# Altium schematic symbol library MSM8916_DRAM_PMIC_REF_Library.SchLib: 236 symbols (part 1 of 2)
Pins are listed as number, name and electrical type; pins without a type are passive.

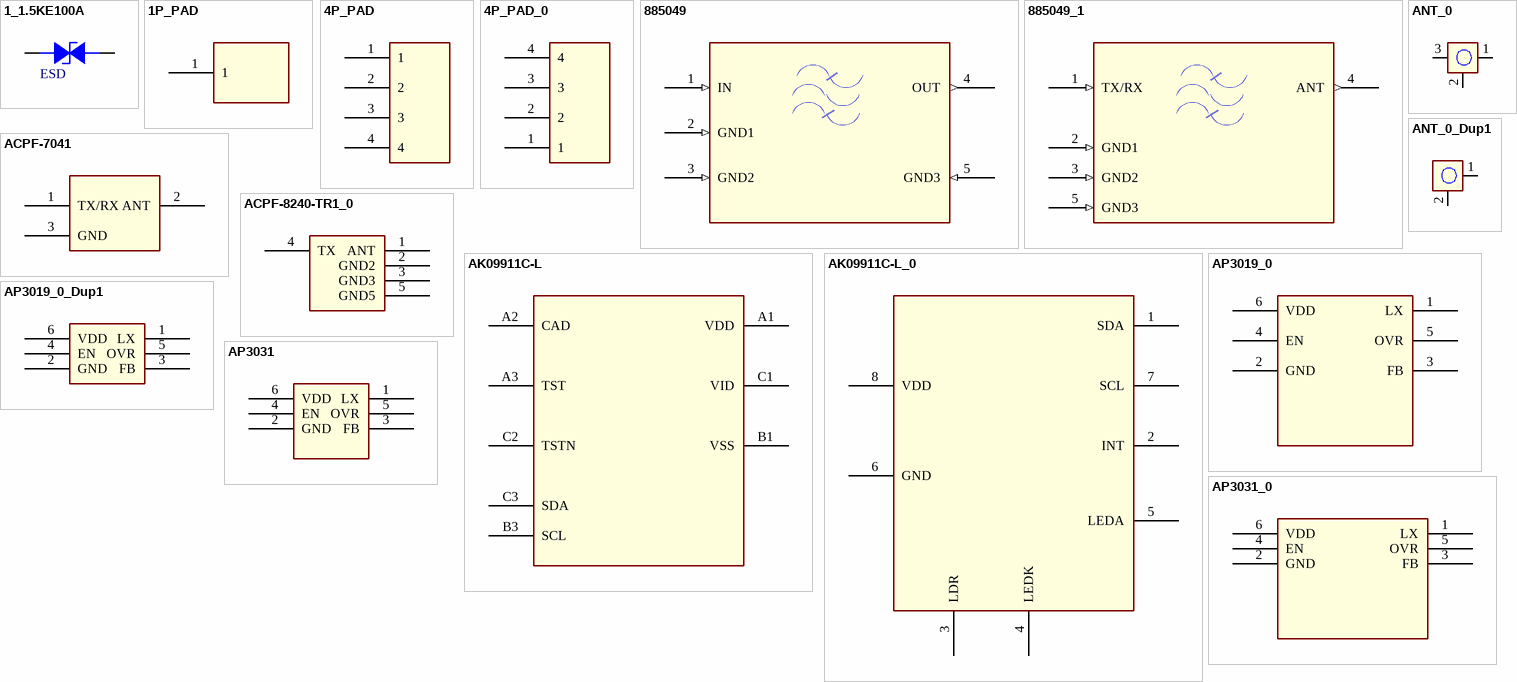
[diagram p0: symbols 1_1.5KE100A to AP3031_0]

## 1_1.5KE100A
designator D?, comment ESD
pins: 1 ANODE, 2 CATHODE

## 1P_PAD
designator U?
pins: 1

## 4P_PAD
designator U?
pins: 1, 2, 3, 4

## 4P_PAD_0
designator U?
pins: 1, 2, 3, 4

## 885049
designator U?
PART_NUMBER: MCN_NO; PART_ID: MFG_NO; $LOCATION: REF?; SYMNAME: filter_bp_3g; $PATH: ?; PACK_TYPE: ?
footprint 885049
pins: 1 IN (in), 2 GND1 (in), 3 GND2 (in), 4 OUT (out), 5 GND3 (in)

## 885049_1
designator U?
PART_NUMBER: MCN_NO; PART_ID: MFG_NO; $LOCATION: REF?; SYMNAME: filter_bp_3g; $PATH: ?; PACK_TYPE: ?
footprint 885049
pins: 1 TX/RX (in), 2 GND1 (in), 3 GND2 (in), 4 ANT (out), 5 GND3 (in)

## ACPF-7041
designator U?
pins: 1 TX/RX, 2 ANT, 3 GND

## ACPF-8240-TR1_0
designator U?
pins: 1 ANT, 2 GND2, 3 GND3, 4 TX, 5 GND5

## AK09911C-L
designator U?
pins: A1 VDD, A2 CAD, A3 TST, B1 VSS, B3 SCL, C1 VID, C2 TSTN, C3 SDA

## AK09911C-L_0
designator U?
pins: 1 SDA, 2 INT, 3 LDR, 4 LEDK, 5 LEDA, 6 GND, 7 SCL, 8 VDD

## ANT_0
designator J?
pins: 1, 2, 3

## ANT_0_Dup1
designator J?
pins: 1, 2

## AP3019_0
designator U?
pins: 1 LX, 2 GND, 3 FB, 4 EN, 5 OVR, 6 VDD

## AP3019_0_Dup1
designator U?
pins: 1 LX, 2 GND, 3 FB, 4 EN, 5 OVR, 6 VDD

## AP3031
designator U?
pins: 1 LX, 2 GND, 3 FB, 4 EN, 5 OVR, 6 VDD

## AP3031_0
designator U?
pins: 1 LX, 2 GND, 3 FB, 4 EN, 5 OVR, 6 VDD

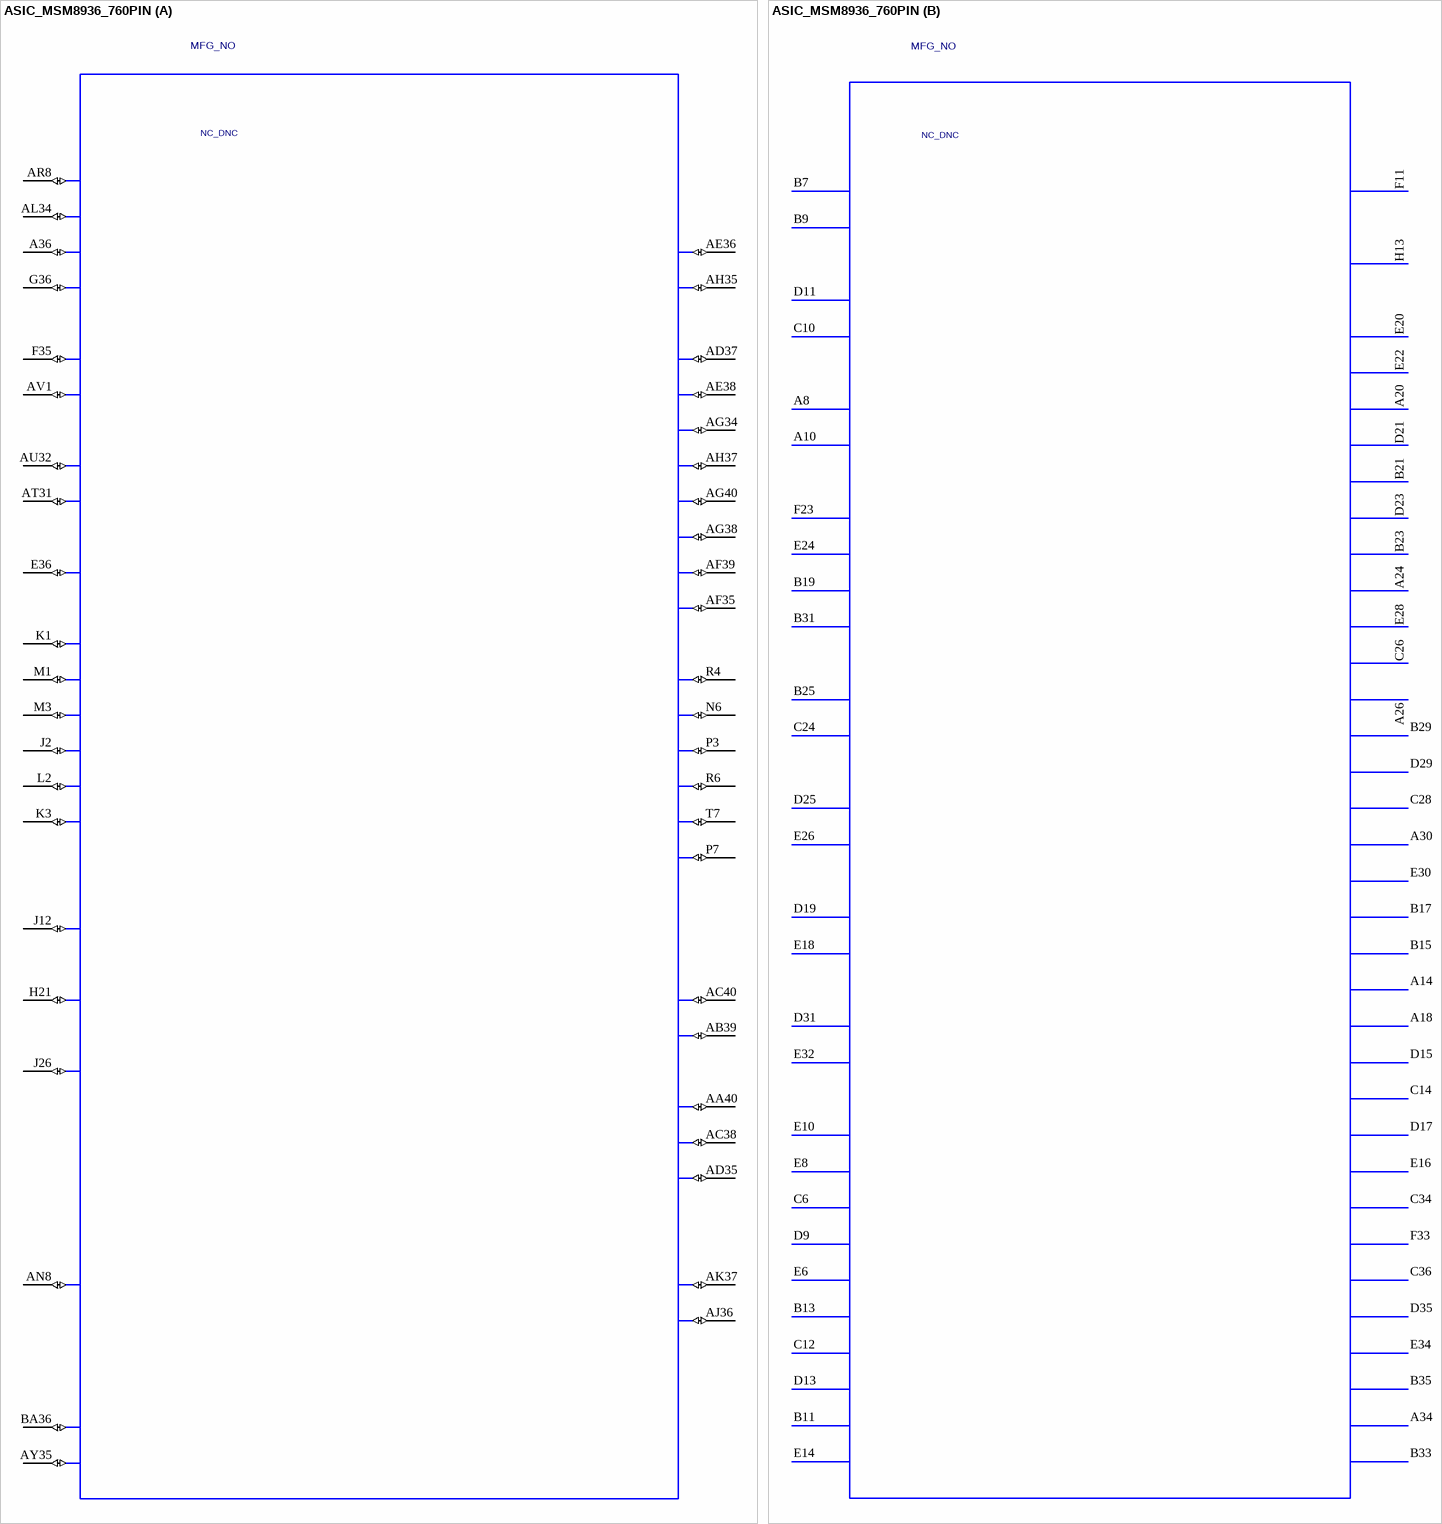
[diagram p1: symbol ASIC_MSM8936_760PIN]

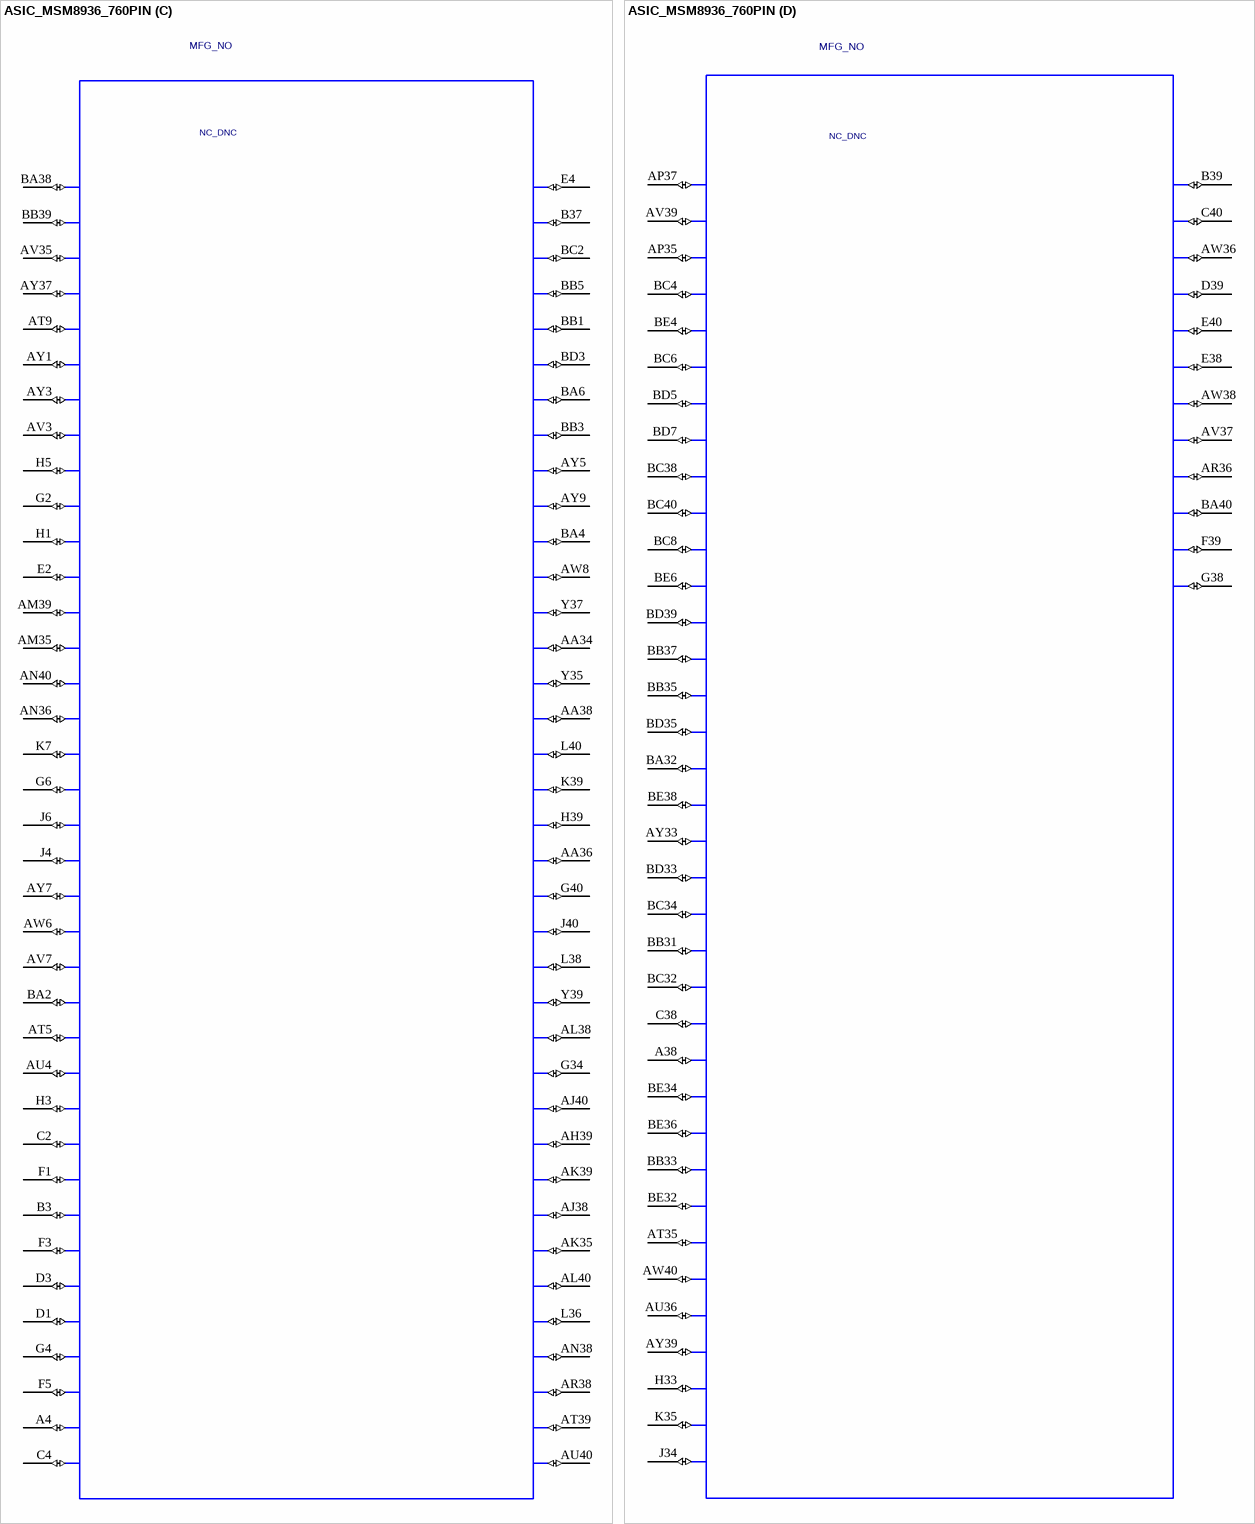
[diagram p2: symbol ASIC_MSM8936_760PIN]

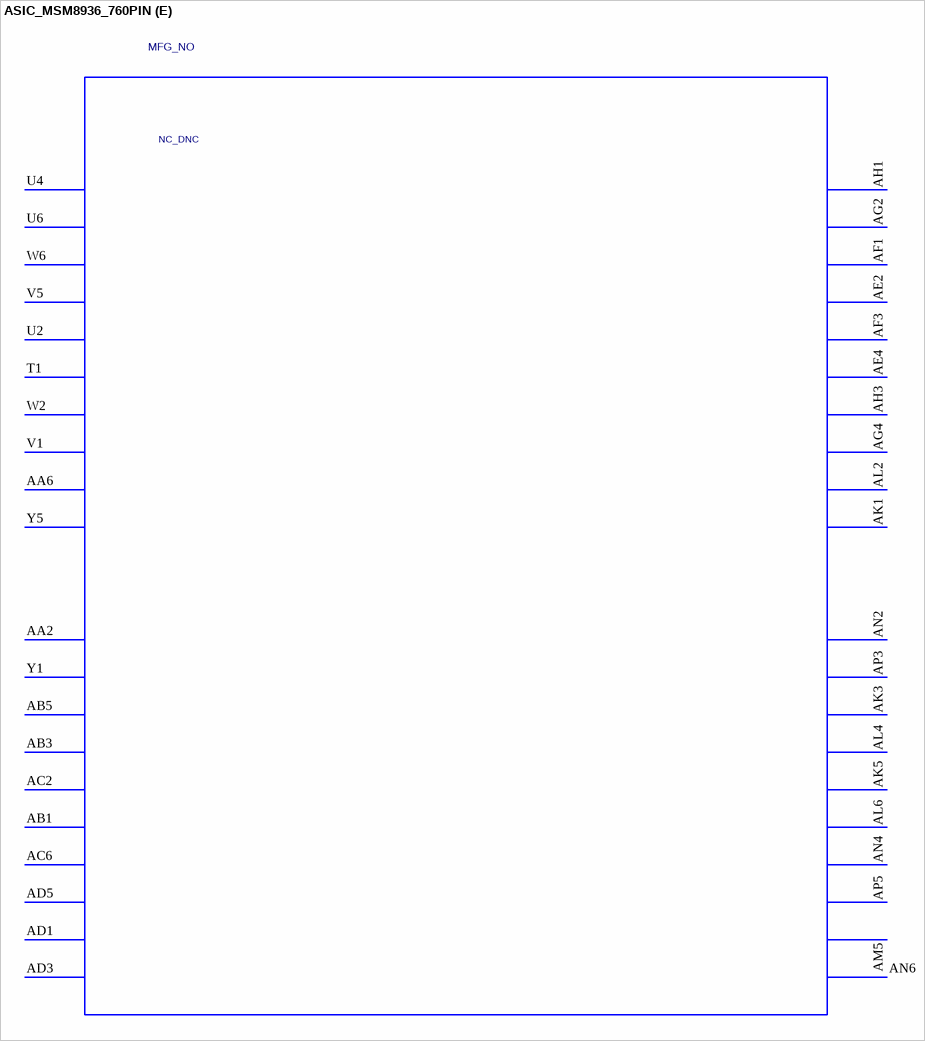
[diagram p3: symbol ASIC_MSM8936_760PIN]

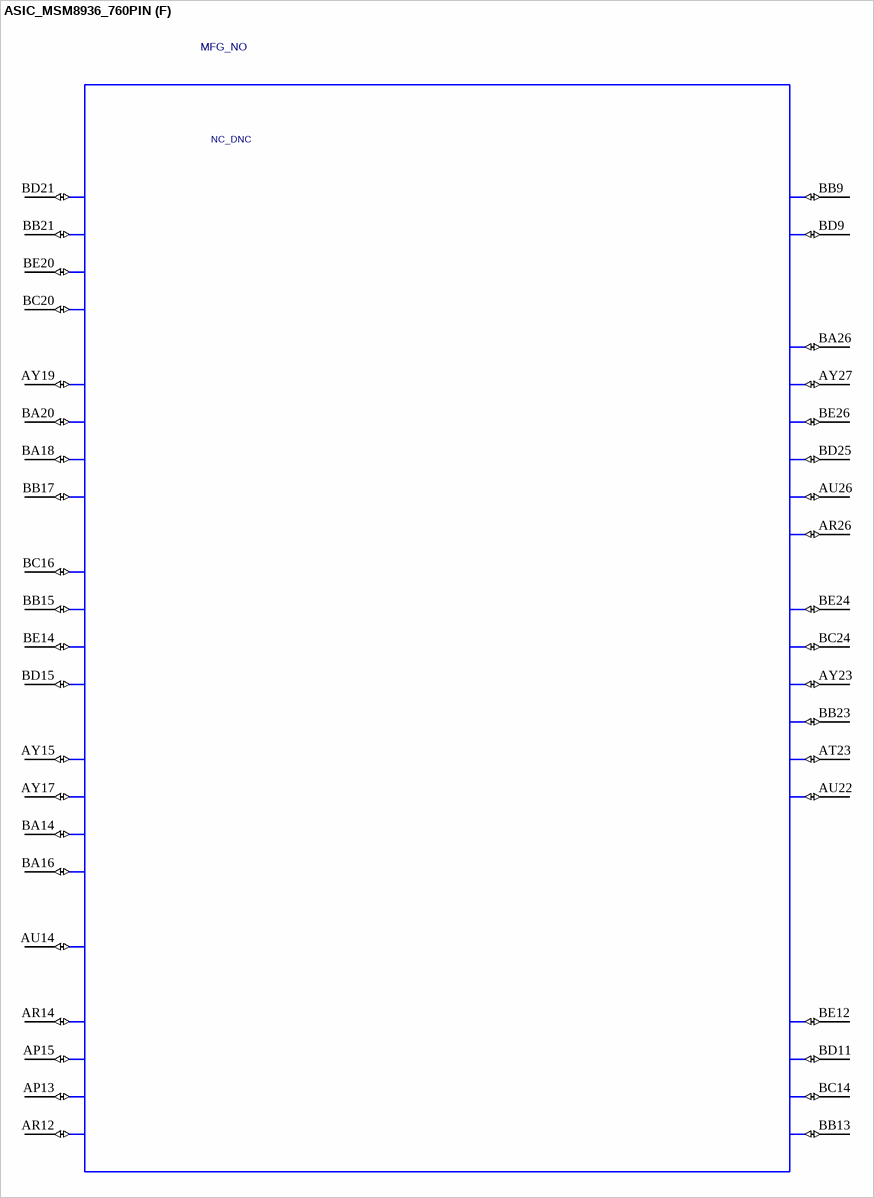
[diagram p4: symbol ASIC_MSM8936_760PIN]

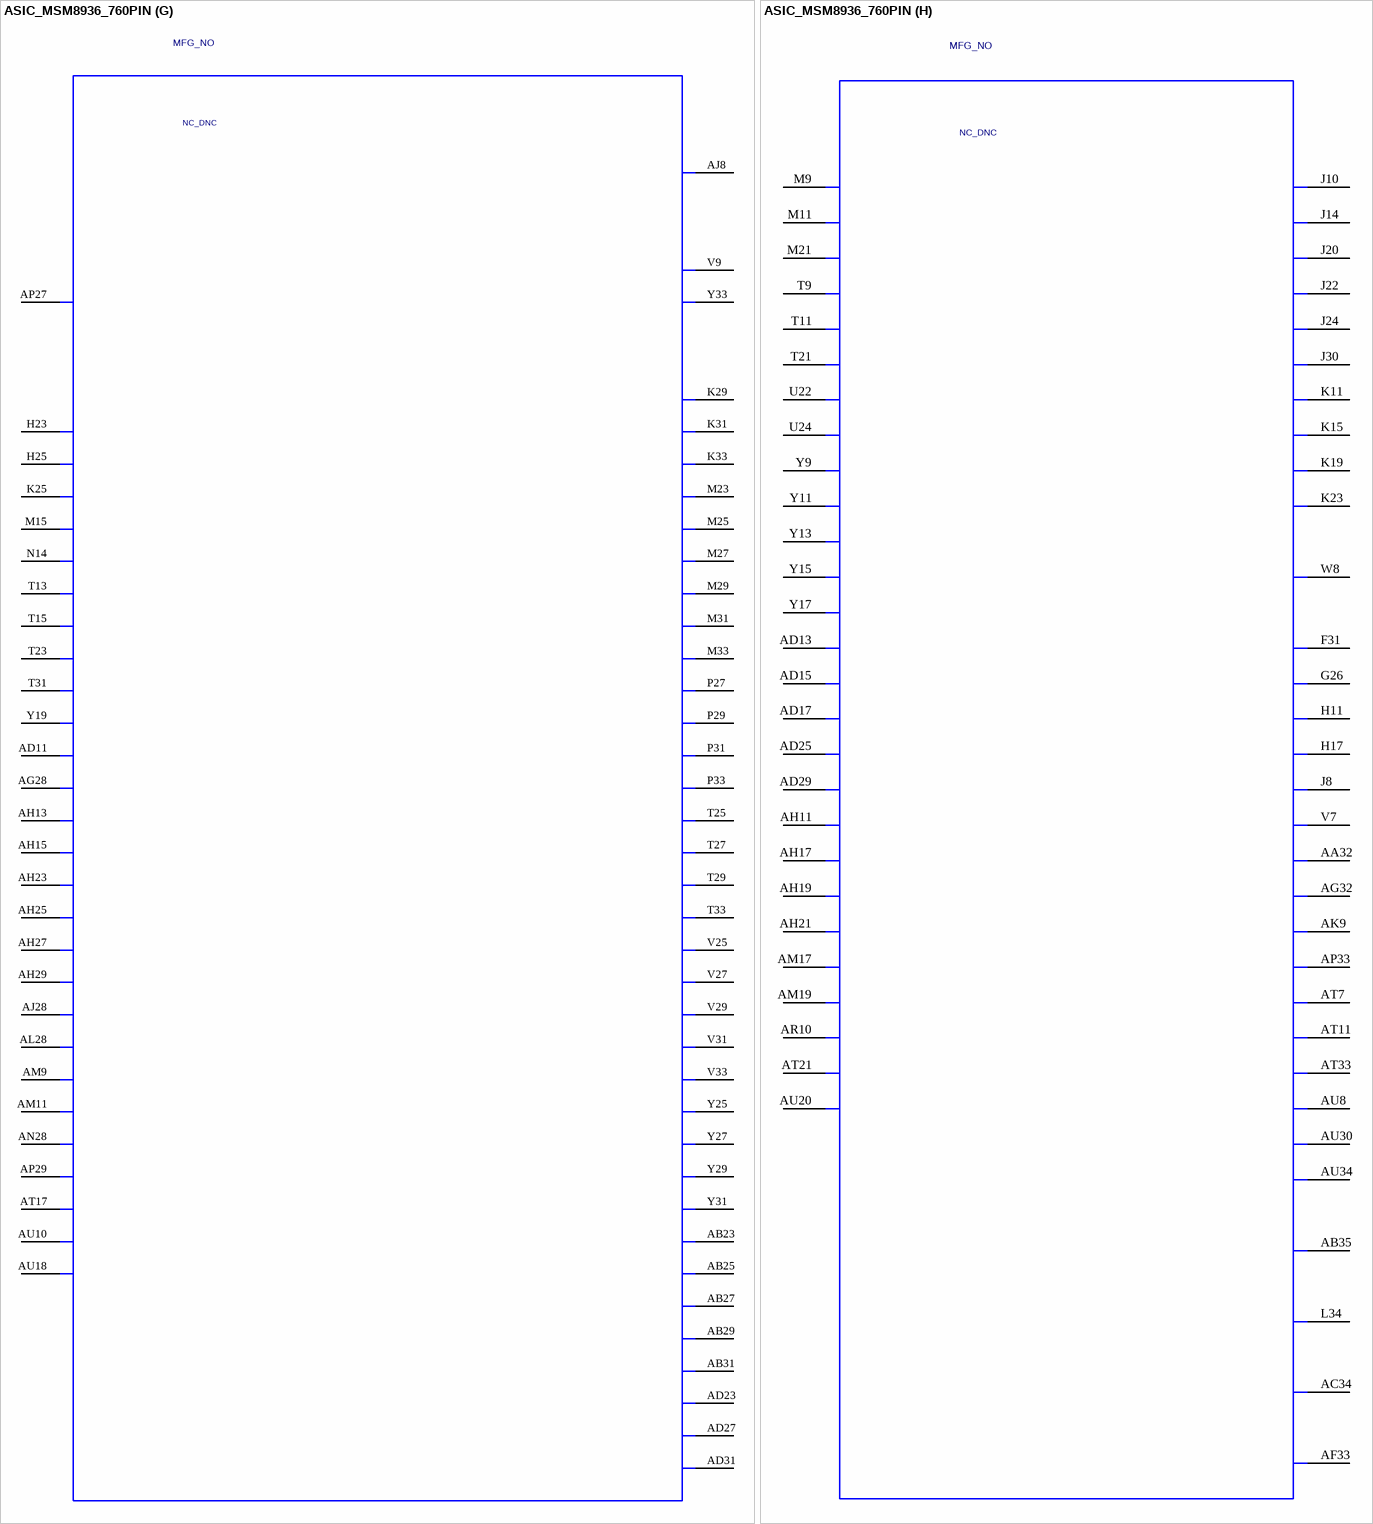
[diagram p5: symbol ASIC_MSM8936_760PIN]

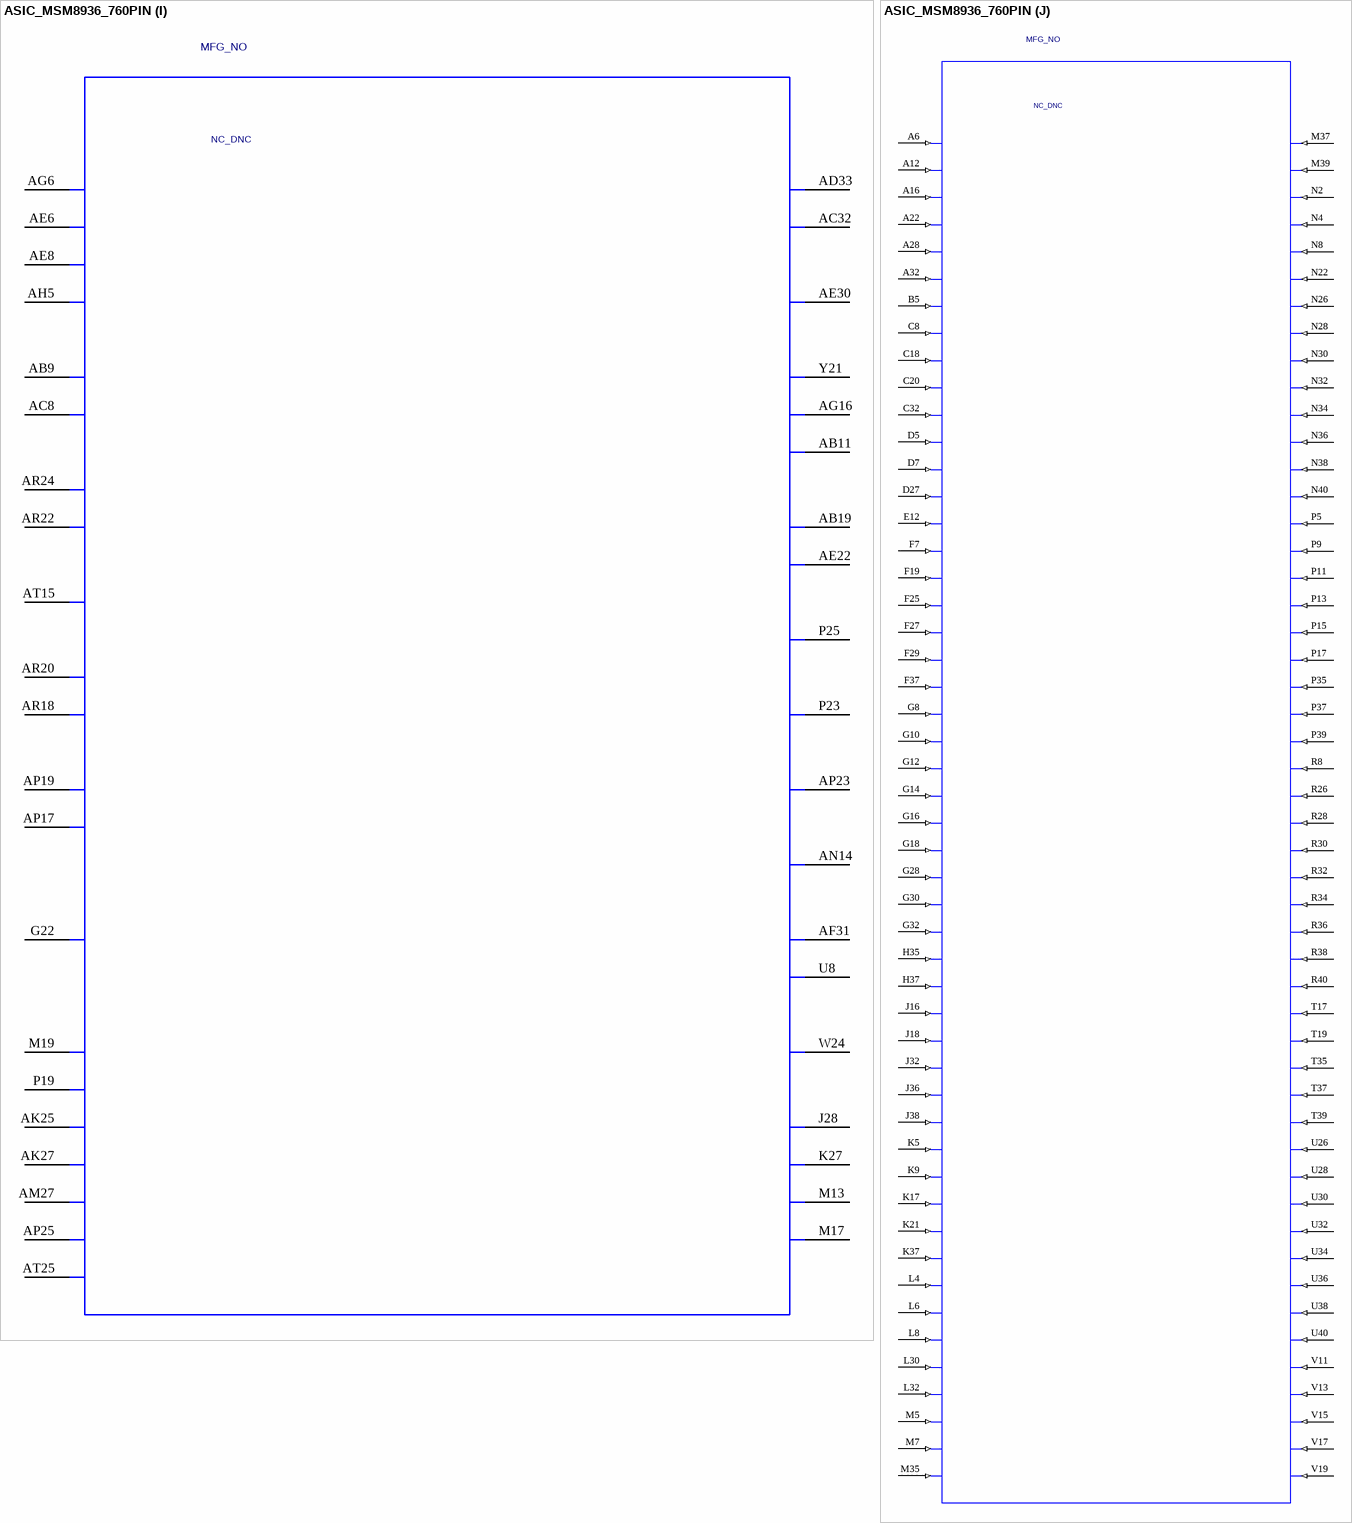
[diagram p6: symbol ASIC_MSM8936_760PIN]

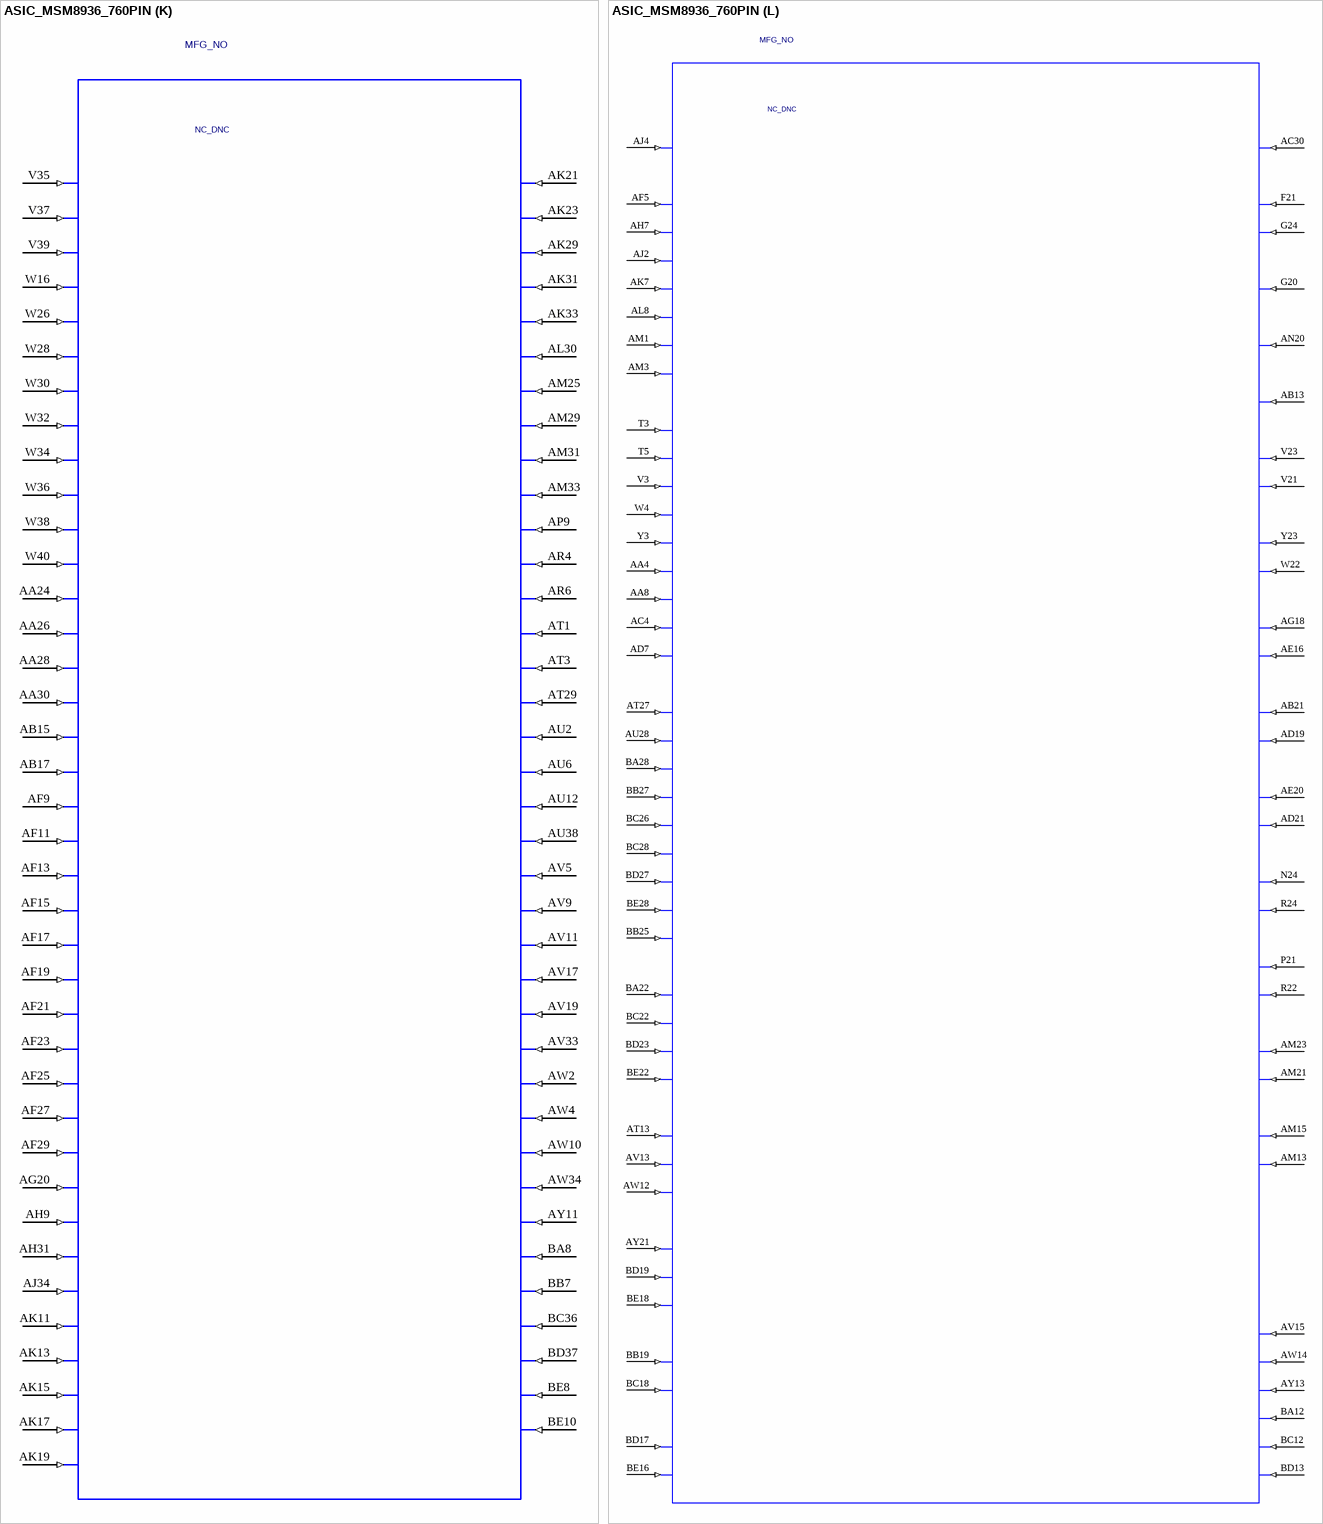
[diagram p7: symbol ASIC_MSM8936_760PIN]

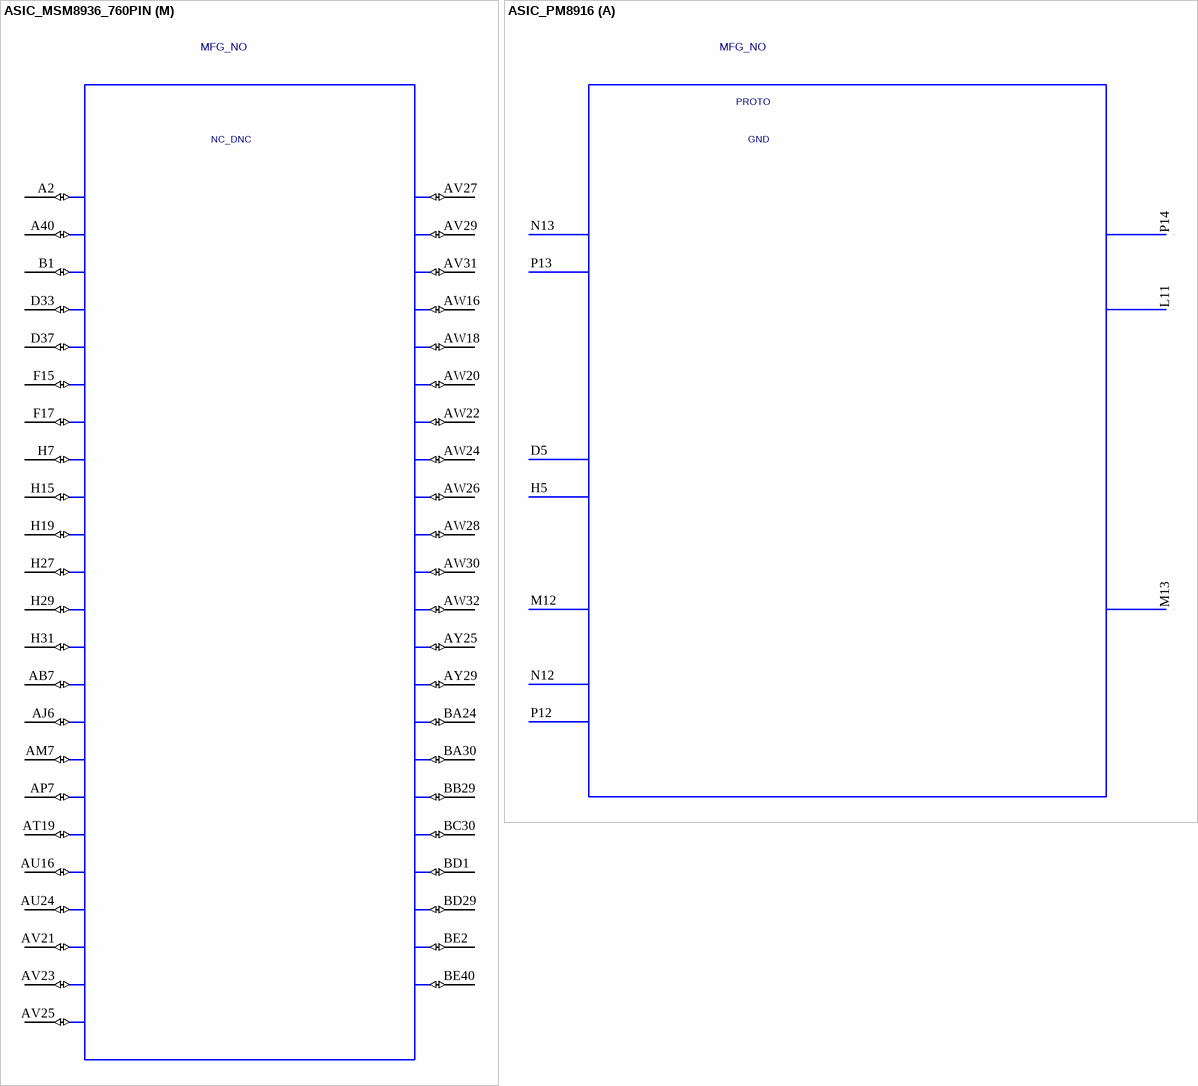
[diagram p8: symbols ASIC_MSM8936_760PIN to ASIC_PM8916]

## ASIC_MSM8936_760PIN
designator REF?  SYMNAME: NC_DNC  PART_ID: MFG_NO  (hidden comment: ASIC_MSM8936_760PIN)
PART_NUMBER: MCN_NO; OriginalSymbolOrigin: (-1100,2500); SPLIT_INST: TRUE; CDS_LMAN_SYM_OUTLINE: -1050,2500,1050,-2500; CDS_LMAN_SPLIT_NUMBER: 1 of 13; PACK_TYPE: ?
footprint MSM-8916-0-760NSP-TR-00-0
part A pins: A36 CXO_EN (io), AA40 USB2_HS_ID (io), AB39 USB2_HS_DP (io), AC38 USB2_HS_TXRTUNE (io), AC40 USB2_HS_DM (io), AD35 USB2_HS_SYSCLOCK (io), AD37 SDC1_DATA_0 (io), AE36 SDC1_CLK (io), AE38 SDC1_DATA_1 (io), AF35 SDC1_DATA_7 (io), AF39 SDC1_DATA_6 (io), AG34 SDC1_DATA_2 (io), AG38 SDC1_DATA_5 (io), AG40 SDC1_DATA_4 (io), AH35 SDC1_CMD (io), AH37 SDC1_DATA_3 (io), AJ36 PMIC_SPMI_DATA (io), AK37 PMIC_SPMI_CLK (io), AL34 CXO (io), AN8 PLL_TEST_SE (io), AR8 WCSS_XO (io), AT31 MODE_1 (io), AU32 MODE_0 (io), AV1 RESOUT* (io), AY35 ATEST1 (io), BA36 ATEST0 (io), E36 PS_HOLD (io), F35 RESIN* (io), G36 SLEEP_CLK (io), H21 VREF_EBI0_D0_D2 (io), J2 TDO (io), J12 VREF_EBI0_CA (io), J26 VREF_EBI0_D1_D3 (io), K1 SRST* (io), K3 TRST* (io), L2 TMS (io), M1 TCK (io), M3 TDI (io), N6 SDC2_CMD (io), P3 SDC2_DATA_0 (io), P7 SDC2_DATA_3 (io), R4 SDC2_CLK (io), R6 SDC2_DATA_1 (io), T7 SDC2_DATA_2 (io)
part B pins: A8 EBI0_CKE_0 (io), A10 EBI0_CKE_1 (io), A14 EBI0_DQ_18 (io), A18 EBI0_DQ_19 (io), A20 EBI0_DQ_2 (io), A24 EBI0_DQ_7 (io), A26 EBI0_DQ_10 (io), A30 EBI0_DQ_14 (io), A34 EBI0_DQ_30 (io), B7 EBI0_CS_N_0 (io), B9 EBI0_CS_N_1 (io), B11 EBI0_CA_8 (io), B13 EBI0_CA_5 (io), B15 EBI0_DQ_17 (io), B17 EBI0_DQ_16 (io), B19 EBI0_DM_2 (io), B21 EBI0_DQ_4 (io), B23 EBI0_DQ_6 (io), B25 EBI0_DQSB_0 (io), B29 EBI0_DQ_11 (io), B31 EBI0_DM_3 (io), B33 EBI0_DQ_31 (io), B35 EBI0_DQ_29 (io), C6 EBI0_CA_2 (io), C10 EBI0_CK (io), C12 EBI0_CA_6 (io), C14 EBI0_DQ_21 (io), C24 EBI0_DQS_0 (io), C26 EBI0_DQ_9 (io), C28 EBI0_DQ_13 (io), C34 EBI0_DQ_24 (io), C36 EBI0_DQ_26 (io), D9 EBI0_CA_3 (io), D11 EBI0_CKB (io), D13 EBI0_CA_7 (io), D15 EBI0_DQ_20 (io), D17 EBI0_DQ_22 (io), D19 EBI0_DQSB_2 (io), D21 EBI0_DQ_3 (io), D23 EBI0_DQ_5 (io), D25 EBI0_DQSB_1 (io), D29 EBI0_DQ_12 (io), D31 EBI0_DQSB_3 (io), D35 EBI0_DQ_27 (io), E6 EBI0_CA_4 (io), E8 EBI0_CA_1 (io), E10 EBI0_CA_0 (io), E14 EBI0_CA_9 (io), E16 EBI0_DQ_23 (io), E18 EBI0_DQS_2 (io), E20 EBI0_DQ_0 (io), E22 EBI0_DQ_1 (io), E24 EBI0_DM_1 (io), E26 EBI0_DQS_1 (io), E28 EBI0_DQ_8 (io), E30 EBI0_DQ_15 (io), E32 EBI0_DQS_3 (io), E34 EBI0_DQ_28 (io), F11 EBI0_CAL (io), F23 EBI0_DM_0 (io), F33 EBI0_DQ_25 (io), H13 EBI0_ODT (io)
part C pins: A4 GPIO_35 (io), AA34 GPIO_50 (io), AA36 GPIO_56 (io), AA38 GPIO_52 (io), AH39 GPIO_64 (io), AJ38 GPIO_66 (io), AJ40 GPIO_63 (io), AK35 GPIO_67 (io), AK39 GPIO_65 (io), AL38 GPIO_61 (io), AL40 GPIO_68 (io), AM35 GPIO_13 (io), AM39 GPIO_12 (io), AN36 GPIO_15 (io), AN38 GPIO_70 (io), AN40 GPIO_14 (io), AR38 GPIO_71 (io), AT5 GPIO_24 (io), AT9 GPIO_4 (io), AT39 GPIO_72 (io), AU4 GPIO_25 (io), AU40 GPIO_73 (io), AV3 GPIO_7 (io), AV7 GPIO_22 (io), AV35 GPIO_2 (io), AW6 GPIO_21 (io), AW8 GPIO_48 (io), AY1 GPIO_5 (io), AY3 GPIO_6 (io), AY5 GPIO_45 (io), AY7 GPIO_20 (io), AY9 GPIO_46 (io), AY37 GPIO_3 (io), B3 GPIO_29 (io), B37 GPIO_38 (io), BA2 GPIO_23 (io), BA4 GPIO_47 (io), BA6 GPIO_43 (io), BA38 GPIO_0 (io), BB1 GPIO_41 (io), BB3 GPIO_44 (io), BB5 GPIO_40 (io), BB39 GPIO_1 (io), BC2 GPIO_39 (io), BD3 GPIO_42 (io), C2 GPIO_27 (io), C4 GPIO_36 (io), D1 GPIO_32 (io), D3 GPIO_31 (io), E2 GPIO_11 (io), E4 GPIO_37 (io), F1 GPIO_28 (io), F3 GPIO_30 (io), F5 GPIO_34 (io), G2 GPIO_9 (io), G4 GPIO_33 (io), G6 GPIO_17 (io), G34 GPIO_62 (io), G40 GPIO_57 (io), H1 GPIO_10 (io), H3 GPIO_26 (io), H5 GPIO_8 (io), H39 GPIO_55 (io), J4 GPIO_19 (io), J6 GPIO_18 (io), J40 GPIO_58 (io), K7 GPIO_16 (io), K39 GPIO_54 (io), L36 GPIO_69 (io), L38 GPIO_59 (io), L40 GPIO_53 (io), Y35 GPIO_51 (io), Y37 GPIO_49 (io), Y39 GPIO_60 (io)
part D pins: A38 GPIO_98 (io), AP35 GPIO_76 (io), AP37 GPIO_74 (io), AR36 GPIO_118 (io), AT35 GPIO_103 (io), AU36 GPIO_105 (io), AV37 GPIO_117 (io), AV39 GPIO_75 (io), AW36 GPIO_112 (io), AW38 GPIO_116 (io), AW40 GPIO_104 (io), AY33 GPIO_92 (io), AY39 GPIO_106 (io), B39 GPIO_110 (io), BA32 GPIO_90 (io), BA40 GPIO_119 (io), BB31 GPIO_95 (io), BB33 GPIO_101 (io), BB35 GPIO_88 (io), BB37 GPIO_87 (io), BC4 GPIO_77 (io), BC6 GPIO_79 (io), BC8 GPIO_84 (io), BC32 GPIO_96 (io), BC34 GPIO_94 (io), BC38 GPIO_82 (io), BC40 GPIO_83 (io), BD5 GPIO_80 (io), BD7 GPIO_81 (io), BD33 GPIO_93 (io), BD35 GPIO_89 (io), BD39 GPIO_86 (io), BE4 GPIO_78 (io), BE6 GPIO_85 (io), BE32 GPIO_102 (io), BE34 GPIO_99 (io), BE36 GPIO_100 (io), BE38 GPIO_91 (io), C38 GPIO_97 (io), C40 GPIO_111 (io), D39 GPIO_113 (io), E38 GPIO_115 (io), E40 GPIO_114 (io), F39 GPIO_120 (io), G38 GPIO_121 (io), H33 GPIO_107 (io), J34 GPIO_109 (io), K35 GPIO_108 (io)
part E pins: AA2 MIPI_CSI1_LANE0N (io), AA6 MIPI_CSI0_LANE4N (io), AB1 MIPI_CSI1_LANE2P (io), AB3 MIPI_CSI1_LANE1P (io), AB5 MIPI_CSI1_LANE1N (io), AC2 MIPI_CSI1_LANE2N (io), AC6 MIPI_CSI1_LANE3N (io), AD1 MIPI_CSI1_LANE4N (io), AD3 MIPI_CSI1_LANE4P (io), AD5 MIPI_CSI1_LANE3P (io), AE2 MIPI_DSI0_LANE0P (io), AE4 MIPI_DSI0_LANE1P (io), AF1 MIPI_DSI0_LANE0N (io), AF3 MIPI_DSI0_LANE1N (io), AG2 MIPI_DSI0_CLKP (io), AG4 MIPI_DSI0_LANE2P (io), AH1 MIPI_DSI0_CLKN (io), AH3 MIPI_DSI0_LANE2N (io), AK1 MIPI_DSI0_LANE3P (io), AK3 MIPI_DSI1_LANE0N (io), AK5 MIPI_DSI1_LANE1N (io), AL2 MIPI_DSI0_LANE3N (io), AL4 MIPI_DSI1_LANE0P (io), AL6 MIPI_DSI1_LANE1P (io), AM5 MIPI_DSI1_LANE3N (io), AN2 MIPI_DSI1_CLKN (io), AN4 MIPI_DSI1_LANE2N (io), AN6 MIPI_DSI1_LANE3P (io), AP3 MIPI_DSI1_CLKP (io), AP5 MIPI_DSI1_LANE2P (io), T1 MIPI_CSI0_LANE2P (io), U2 MIPI_CSI0_LANE2N (io), U4 MIPI_CSI0_LANE0N (io), U6 MIPI_CSI0_LANE0P (io), V1 MIPI_CSI0_LANE3P (io), V5 MIPI_CSI0_LANE1P (io), W2 MIPI_CSI0_LANE3N (io), W6 MIPI_CSI0_LANE1N (io), Y1 MIPI_CSI1_LANE0P (io), Y5 MIPI_CSI0_LANE4P (io)
part F pins: AP13 WLAN_QN (io), AP15 WLAN_IP (io), AR12 WLAN_QP (io), AR14 WLAN_IN (io), AR26 TXDAC0_VREF (io), AT23 TXDAC1_IREF (io), AU14 WLAN_RSET (io), AU22 TXDAC1_VREF (io), AU26 TXDAC0_IREF (io), AY15 BBRX1 (io), AY17 BBRX2 (io), AY19 BBRX_I_IN_CH1 (io), AY23 TXDAC1_QM (io), AY27 TXDAC0_IP (io), BA14 BBRX3 (io), BA16 BBRX4 (io), BA18 BBRX_I_QN_CH1 (io), BA20 BBRX_I_IP_CH1 (io), BA26 TXDAC0_IM (io), BB9 GRFC1 (io), BB13 GPS_BBQ2 (io), BB15 BBRX_I_IP_CH2 (io), BB17 BBRX_I_QP_CH1 (io), BB21 BBRX_I_IP_CH0 (io), BB23 TXDAC1_QP (io), BC14 GPS_BBQ (io), BC16 BBRX_I_IN_CH2 (io), BC20 BBRX_I_QP_CH0 (io), BC24 TXDAC1_IP (io), BD9 GRFC2 (io), BD11 GPS_BBI2 (io), BD15 BBRX_I_QP_CH2 (io), BD21 BBRX_I_IN_CH0 (io), BD25 TXDAC0_QP (io), BE12 GPS_BBI (io), BE14 BBRX_I_QN_CH2 (io), BE20 BBRX_I_QN_CH0 (io), BE24 TXDAC1_IM (io), BE26 TXDAC0_QM (io)
part G pins: AB23 VDD_APC_27 (power), AB25 VDD_APC_28 (power), AB27 VDD_APC_29 (power), AB29 VDD_APC_30 (power), AB31 VDD_APC_31 (power), AD11 VDDMX_1_11 (power), AD23 VDD_APC_32 (power), AD27 VDD_APC_33 (power), AD31 VDD_APC_34 (power), AG28 VDDMX_1_12 (power), AH13 VDDMX_1_13 (power), AH15 VDDMX_1_14 (power), AH23 VDDMX_1_15 (power), AH25 VDDMX_1_16 (power), AH27 VDDMX_1_17 (power), AH29 VDDMX_1_18 (power), AJ8 QFPROM_BLOW_VDD (power), AJ28 VDDMX_1_19 (power), AL28 VDDMX_1_20 (power), AM9 VDDMX_1_21 (power), AM11 VDDMX_1_22 (power), AN28 VDDMX_1_23 (power), AP27 VDDMX_TXDAC (power), AP29 VDDMX_1_24 (power), AT17 VDDMX_1_25 (power), AU10 VDDMX_1_26 (power), AU18 VDDMX_1_27 (power), H23 VDDMX_1_1 (power), H25 VDDMX_1_2 (power), K25 VDDMX_1_3 (power), K29 VDD_APC_1 (power), K31 VDD_APC_2 (power), K33 VDD_APC_3 (power), M15 VDDMX_1_4 (power), M23 VDD_APC_4 (power), M25 VDD_APC_5 (power), M27 VDD_APC_6 (power), M29 VDD_APC_7 (power), M31 VDD_APC_8 (power), M33 VDD_APC_9 (power), N14 VDDMX_1_5 (power), P27 VDD_APC_10 (power), P29 VDD_APC_11 (power), P31 VDD_APC_12 (power), P33 VDD_APC_13 (power), T13 VDDMX_1_6 (power), T15 VDDMX_1_7 (power), T23 VDDMX_1_8 (power), T25 VDD_APC_14 (power), T27 VDD_APC_15 (power), T29 VDD_APC_16 (power), T31 VDDMX_1_9 (power), T33 VDD_APC_17 (power), V9 VDDPX_VBIAS_SDC (power), V25 VDD_APC_18 (power), V27 VDD_APC_19 (power), V29 VDD_APC_20 (power), V31 VDD_APC_21 (power), V33 VDD_APC_22 (power), Y19 VDDMX_1_10 (power), Y25 VDD_APC_23 (power), Y27 VDD_APC_24 (power), Y29 VDD_APC_25 (power), Y31 VDD_APC_26 (power), Y33 VDDPX_VBIAS_UIM (power)
part H pins: AA32 VDDPX_3_7 (power), AB35 VDDPX_4 (power), AC34 VDDPX_6 (power), AD13 VDDCX_1_14 (power), AD15 VDDCX_1_15 (power), AD17 VDDCX_1_16 (power), AD25 VDDCX_1_17 (power), AD29 VDDCX_1_18 (power), AF33 VDDPX_7 (power), AG32 VDDPX_3_8 (power), AH11 VDDCX_1_19 (power), AH17 VDDCX_1_20 (power), AH19 VDDCX_1_21 (power), AH21 VDDCX_1_22 (power), AK9 VDDPX_3_9 (power), AM17 VDDCX_1_23 (power), AM19 VDDCX_1_24 (power), AP33 VDDPX_3_10 (power), AR10 VDDCX_1_25 (power), AT7 VDDPX_3_11 (power), AT11 VDDPX_3_12 (power), AT21 VDDCX_1_26 (power), AT33 VDDPX_3_13 (power), AU8 VDDPX_3_14 (power), AU20 VDDCX_1_27 (power), AU30 VDDPX_3_15 (power), AU34 VDDPX_3_16 (power), F31 VDDPX_3_1 (power), G26 VDDPX_3_2 (power), H11 VDDPX_3_3 (power), H17 VDDPX_3_4 (power), J8 VDDPX_3_5 (power), J10 VDDPX_1_1 (power), J14 VDDPX_1_2 (power), J20 VDDPX_1_3 (power), J22 VDDPX_1_4 (power), J24 VDDPX_1_5 (power), J30 VDDPX_1_6 (power), K11 VDDPX_1_7 (power), K15 VDDPX_1_8 (power), K19 VDDPX_1_9 (power), K23 VDDPX_1_10 (power), L34 VDDPX_5 (power), M9 VDDCX_1_1 (power), M11 VDDCX_1_2 (power), M21 VDDCX_1_3 (power), T9 VDDCX_1_4 (power), T11 VDDCX_1_5 (power), T21 VDDCX_1_6 (power), U22 VDDCX_1_7 (power), U24 VDDCX_1_8 (power), V7 VDDPX_3_6 (power), W8 VDDPX_2 (power), Y9 VDDCX_1_9 (power), Y11 VDDCX_1_10 (power), Y13 VDDCX_1_11 (power), Y15 VDDCX_1_12 (power), Y17 VDDCX_1_13 (power)
part I pins: AB9 VDDA_MIPI_CSI_1 (power), AB11 VDD_SR_GPLL4 (power), AB19 VDD_SR_MPLL0_GPLL6 (power), AC8 VDDA_MIPI_CSI_2 (power), AC32 USB2_HS_VDDA_3P3 (power), AD33 USB2_HS_VDDA_1P8 (power), AE6 VDDA_1P2_MIPI_DSI_1 (power), AE8 VDDA_1P2_MIPI_DSI_2 (power), AE22 VDD_SR_MPLL2_GPLL1 (power), AE30 USB2_HS_DVDD (power), AF31 VDD_CDC_SDC1 (power), AG6 VDDA_0P4_MIPI_DSI (power), AG16 VDD_SR_GPLL3 (power), AH5 VDDA_MIPI_DSI_PLL (power), AK25 VDD_MSS_3 (power), AK27 VDD_MSS_4 (power), AM27 VDD_MSS_5 (power), AN14 VDD_SR2_PRONTO_PLL (power), AP17 VDDAL_BBRX_CH2_GPSADC (power), AP19 VDDAL_BBRX_CH0_1 (power), AP23 VDD_SR2_MODEM_PLL1 (power), AP25 VDD_MSS_6 (power), AR18 VDDAH_BBRX_CH2 (power), AR20 VDDAH_BBRX_CH0_1 (power), AR22 VDDA_TXDAC1 (power), AR24 VDDA_TXDAC0 (power), AT15 VDDA_WLAN (power), AT25 VDD_MSS_7 (power), G22 VDDA_PLL_1P8 (power), J28 VDDA_CDC_EBI0_CA_D0_D1_D2_D3_1 (power), K27 VDDA_CDC_EBI0_CA_D0_D1_D2_D3_2 (power), M13 VDDA_CDC_EBI0_CA_D0_D1_D2_D3_3 (power), M17 VDDA_CDC_EBI0_CA_D0_D1_D2_D3_4 (power), M19 VDD_MSS_1 (power), P19 VDD_MSS_2 (power), P23 VDD_SR2_BIMC_GPLL5 (power), P25 VDD_SR2_APPS_PLL (power), U8 VDD_CDC_SDC2 (power), W24 VDD_HF_APPS_PLL (power), Y21 VDD_SR_GPLL0_GPLL2 (power)
part J pins: A6 VSSX_0_1 (in), A12 VSSX_0_2 (in), A16 VSSX_0_3 (in), A22 VSSX_0_4 (in), A28 VSSX_0_5 (in), A32 VSSX_0_6 (in), B5 VSSX_0_7 (in), C8 VSSX_0_8 (in), C18 VSSX_0_9 (in), C20 VSSX_0_10 (in), C32 VSSX_0_11 (in), D5 VSSX_0_12 (in), D7 VSSX_0_13 (in), D27 VSSX_0_14 (in), E12 VSSX_0_15 (in), F7 VSSX_0_16 (in), F19 VSSX_0_17 (in), F25 VSSX_0_18 (in), F27 VSSX_0_19 (in), F29 VSSX_0_20 (in), F37 VSSX_0_21 (in), G8 VSSX_0_22 (in), G10 VSSX_0_23 (in), G12 VSSX_0_24 (in), G14 VSSX_0_25 (in), G16 VSSX_0_26 (in), G18 VSSX_0_27 (in), G28 VSSX_0_28 (in), G30 VSSX_0_29 (in), G32 VSSX_0_30 (in), H35 VSSX_0_31 (in), H37 VSSX_0_32 (in), J16 VSSX_0_33 (in), J18 VSSX_0_34 (in), J32 VSSX_0_35 (in), J36 VSSX_0_36 (in), J38 VSSX_0_37 (in), K5 VSSX_0_38 (in), K9 VSSX_0_39 (in), K17 VSSX_0_40 (in), K21 VSSX_0_41 (in), K37 VSSX_0_42 (in), L4 VSSX_0_43 (in), L6 VSSX_0_44 (in), L8 VSSX_0_45 (in), L30 VSSX_0_46 (in), L32 VSSX_0_47 (in), M5 VSSX_0_48 (in), M7 VSSX_0_49 (in), M35 VSSX_0_50 (in), M37 VSSX_0_51 (in), M39 VSSX_0_52 (in), N2 VSSX_0_53 (in), N4 VSSX_0_54 (in), N8 VSSX_0_55 (in), N22 VSSX_0_56 (in), N26 VSSX_0_57 (in), N28 VSSX_0_58 (in), N30 VSSX_0_59 (in), N32 VSSX_0_60 (in), N34 VSSX_0_61 (in), N36 VSSX_0_62 (in), N38 VSSX_0_63 (in), N40 VSSX_0_64 (in), P5 VSSX_0_65 (in), P9 VSSX_0_66 (in), P11 VSSX_0_67 (in), P13 VSSX_0_68 (in), P15 VSSX_0_69 (in), P17 VSSX_0_70 (in), P35 VSSX_0_71 (in), P37 VSSX_0_72 (in), P39 VSSX_0_73 (in), R8 VSSX_0_74 (in), R26 VSSX_0_75 (in), R28 VSSX_0_76 (in), R30 VSSX_0_77 (in), R32 VSSX_0_78 (in), R34 VSSX_0_79 (in), R36 VSSX_0_80 (in), R38 VSSX_0_81 (in), R40 VSSX_0_82 (in), T17 VSSX_0_83 (in), T19 VSSX_0_84 (in), T35 VSSX_0_85 (in), T37 VSSX_0_86 (in), T39 VSSX_0_87 (in), U26 VSSX_0_88 (in), U28 VSSX_0_89 (in), U30 VSSX_0_90 (in), U32 VSSX_0_91 (in), U34 VSSX_0_92 (in), U36 VSSX_0_93 (in), U38 VSSX_0_94 (in), U40 VSSX_0_95 (in), V11 VSSX_0_96 (in), V13 VSSX_0_97 (in), V15 VSSX_0_98 (in), V17 VSSX_0_99 (in), V19 VSSX_0_100 (in)
part K pins: AA24 VSSX_0_113 (in), AA26 VSSX_0_114 (in), AA28 VSSX_0_115 (in), AA30 VSSX_0_116 (in), AB15 VSSX_0_117 (in), AB17 VSSX_0_118 (in), AF9 VSSX_0_119 (in), AF11 VSSX_0_120 (in), AF13 VSSX_0_121 (in), AF15 VSSX_0_122 (in), AF17 VSSX_0_123 (in), AF19 VSSX_0_124 (in), AF21 VSSX_0_125 (in), AF23 VSSX_0_126 (in), AF25 VSSX_0_127 (in), AF27 VSSX_0_128 (in), AF29 VSSX_0_129 (in), AG20 VSSX_0_130 (in), AH9 VSSX_0_131 (in), AH31 VSSX_0_132 (in), AJ34 VSSX_0_133 (in), AK11 VSSX_0_134 (in), AK13 VSSX_0_135 (in), AK15 VSSX_0_136 (in), AK17 VSSX_0_137 (in), AK19 VSSX_0_138 (in), AK21 VSSX_0_139 (in), AK23 VSSX_0_140 (in), AK29 VSSX_0_141 (in), AK31 VSSX_0_142 (in), AK33 VSSX_0_143 (in), AL30 VSSX_0_144 (in), AM25 VSSX_0_145 (in), AM29 VSSX_0_146 (in), AM31 VSSX_0_147 (in), AM33 VSSX_0_148 (in), AP9 VSSX_0_149 (in), AR4 VSSX_0_150 (in), AR6 VSSX_0_151 (in), AT1 VSSX_0_152 (in), AT3 VSSX_0_153 (in), AT29 VSSX_0_154 (in), AU2 VSSX_0_155 (in), AU6 VSSX_0_156 (in), AU12 VSSX_0_157 (in), AU38 VSSX_0_158 (in), AV5 VSSX_0_159 (in), AV9 VSSX_0_160 (in), AV11 VSSX_0_161 (in), AV17 VSSX_0_162 (in), AV19 VSSX_0_163 (in), AV33 VSSX_0_164 (in), AW2 VSSX_0_165 (in), AW4 VSSX_0_166 (in), AW10 VSSX_0_167 (in), AW34 VSSX_0_168 (in), AY11 VSSX_0_169 (in), BA8 VSSX_0_170 (in), BB7 VSSX_0_171 (in), BC36 VSSX_0_172 (in), BD37 VSSX_0_173 (in), BE8 VSSX_0_174 (in), BE10 VSSX_0_175 (in), V35 VSSX_0_101 (in), V37 VSSX_0_102 (in), V39 VSSX_0_103 (in), W16 VSSX_0_104 (in), W26 VSSX_0_105 (in), W28 VSSX_0_106 (in), W30 VSSX_0_107 (in), W32 VSSX_0_108 (in), W34 VSSX_0_109 (in), W36 VSSX_0_110 (in), W38 VSSX_0_111 (in), W40 VSSX_0_112 (in)
part L pins: AA4 VSSA_MIPI_CSI_6 (in), AA8 VSSA_MIPI_CSI_7 (in), AB13 VSS_GR_SR_GPLL4 (in), AB21 VSS_SR_MPLL0_GPLL6 (in), AC4 VSSA_MIPI_CSI_8 (in), AC30 VSSA_USB2_HS (in), AD7 VSSA_MIPI_CSI_9 (in), AD19 VSS_SR_MPLL0_GPLL6_GR (in), AD21 VSS_SR_MPLL2_GPLL1_GR (in), AE16 VSS_SR_GPLL3_GR (in), AE20 VSS_SR_MPLL2_GPLL1 (in), AF5 VSSA_MIPI_DSI_1 (in), AG18 VSS_SR_GPLL3 (in), AH7 VSSA_MIPI_DSI_2 (in), AJ2 VSSA_MIPI_DSI_3 (in), AJ4 VSSA_MIPI_DSI_PLL (in), AK7 VSSA_MIPI_DSI_4 (in), AL8 VSSA_MIPI_DSI_5 (in), AM1 VSSA_MIPI_DSI_6 (in), AM3 VSSA_MIPI_DSI_7 (in), AM13 VSS_SR2_PRONTO_PLL_GR (in), AM15 VSS_SR2_PRONTO_PLL (in), AM21 VSS_SR2_MODEM_PLL1_GR (in), AM23 VSS_SR2_MODEM_PLL1 (in), AN20 VSS_GR_BBRX_CH0_1_2_GPSADC (in), AT13 VSSA_WLAN_1 (in), AT27 VSSA_TXDAC0_1 (in), AU28 VSSA_TXDAC0_2 (in), AV13 VSSA_WLAN_2 (in), AV15 GPSADC_AVSS_1 (in), AW12 VSSA_WLAN_3 (in), AW14 GPSADC_AVSS_2 (in), AY13 GPSADC_AVSS_3 (in), AY21 VSSA_BBRX_CH0_1 (in), BA12 GPSADC_AVSS_4 (in), BA22 VSSA_TXDAC1_1 (in), BA28 VSSA_TXDAC0_3 (in), BB19 VSSA_BBRX_CH1_1 (in), BB25 VSSA_GR_TXDAC0 (in), BB27 VSSA_TXDAC0_4 (in), BC12 GPSADC_AVSS_5 (in), BC18 VSSA_BBRX_CH1_2 (in), BC22 VSSA_TXDAC1_2 (in), BC26 VSSA_TXDAC0_5 (in), BC28 VSSA_TXDAC0_6 (in), BD13 GPSADC_AVSS_6 (in), BD17 VSSA_BBRX_CH2_1 (in), BD19 VSSA_BBRX_CH0_2 (in), BD23 VSSA_TXDAC1_3 (in), BD27 VSSA_TXDAC0_7 (in), BE16 VSSA_BBRX_CH2_2 (in), BE18 VSSA_BBRX_CH0_3 (in), BE22 VSSA_GR_TXDAC1 (in), BE28 VSSA_TXDAC0_8 (in), F21 VSSA_PLL (in), G20 VSSA_CM (in), G24 VSSA_PLL_GR (in), N24 VSS_SR2_APPS_PLL (in), P21 VSS_SR2_BIMC_GPLL5 (in), R22 VSS_SR2_BIMC_GPLL5_GR (in), R24 VSS_SR2_APPS_PLL_GR (in), T3 VSSA_MIPI_CSI_1 (in), T5 VSSA_MIPI_CSI_2 (in), V3 VSSA_MIPI_CSI_3 (in), V21 VSS_HF_APPS_PLL_GR (in), V23 VSS_HF_APPS_PLL (in), W4 VSSA_MIPI_CSI_4 (in), W22 VSS_SR_GPLL0_GPLL2_GR (in), Y3 VSSA_MIPI_CSI_5 (in), Y23 VSS_SR_GPLL0_GPLL2 (in)
part M pins: A2 NC_1 (io), A40 NC_2 (io), AB7 NC_14 (io), AJ6 NC_15 (io), AM7 NC_16 (io), AP7 NC_17 (io), AT19 NC_18 (io), AU16 NC_19 (io), AU24 NC_20 (io), AV21 NC_21 (io), AV23 NC_22 (io), AV25 NC_23 (io), AV27 NC_24 (io), AV29 NC_25 (io), AV31 NC_26 (io), AW16 NC_27 (io), AW18 NC_28 (io), AW20 NC_29 (io), AW22 NC_30 (io), AW24 NC_31 (io), AW26 NC_32 (io), AW28 NC_33 (io), AW30 NC_34 (io), AW32 NC_35 (io), AY25 NC_36 (io), AY29 NC_37 (io), B1 NC_3 (io), BA24 NC_38 (io), BA30 NC_39 (io), BB29 NC_40 (io), BC30 NC_41 (io), BD1 NC_42 (io), BD29 NC_43 (io), BE2 NC_44 (io), BE40 NC_45 (io), D33 NC_4 (io), D37 NC_5 (io), F15 NC_6 (io), F17 NC_7 (io), H7 NC_8 (io), H15 NC_9 (io), H19 NC_10 (io), H27 NC_11 (io), H29 NC_12 (io), H31 NC_13 (io)

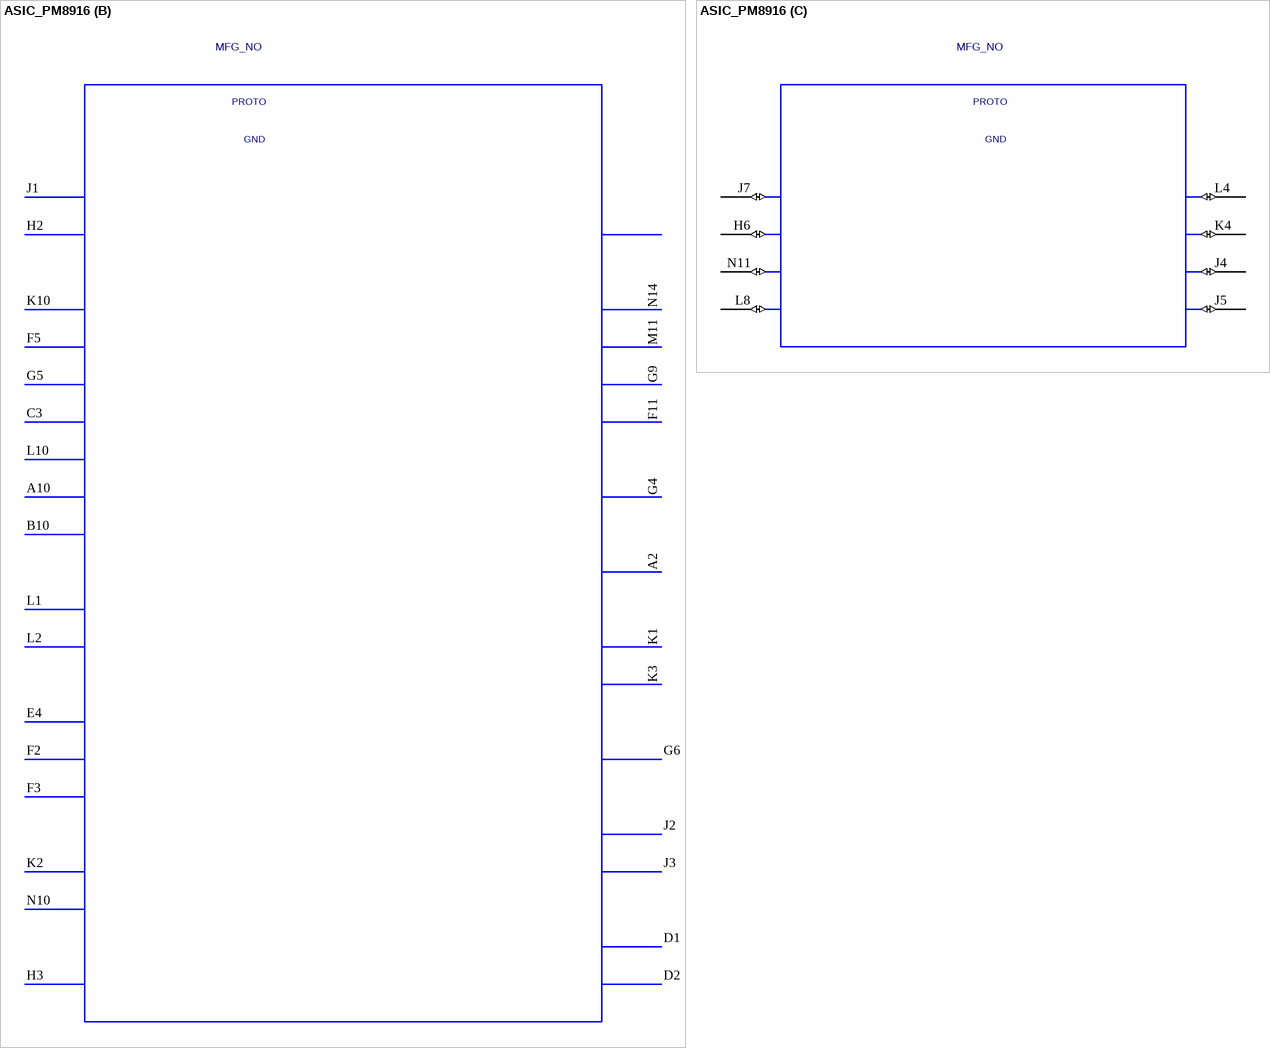
[diagram p9: symbol ASIC_PM8916]

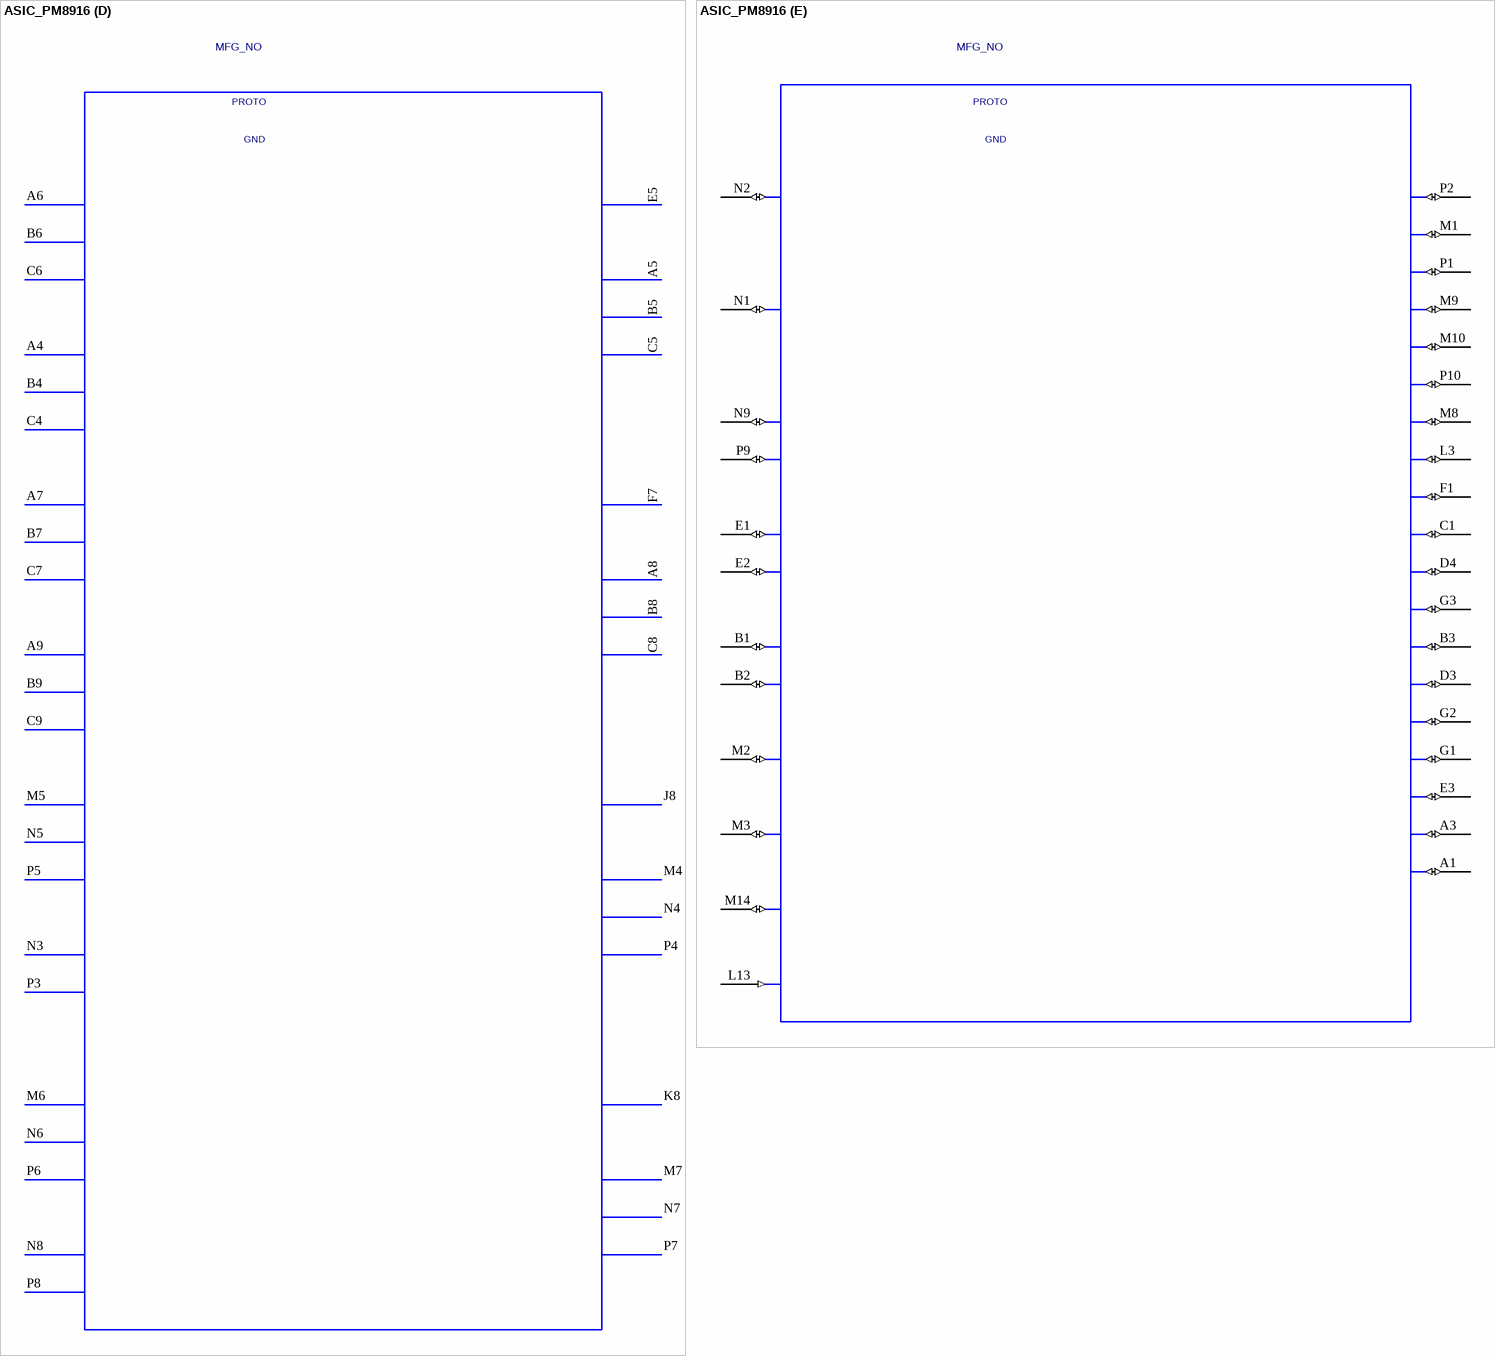
[diagram p10: symbol ASIC_PM8916]

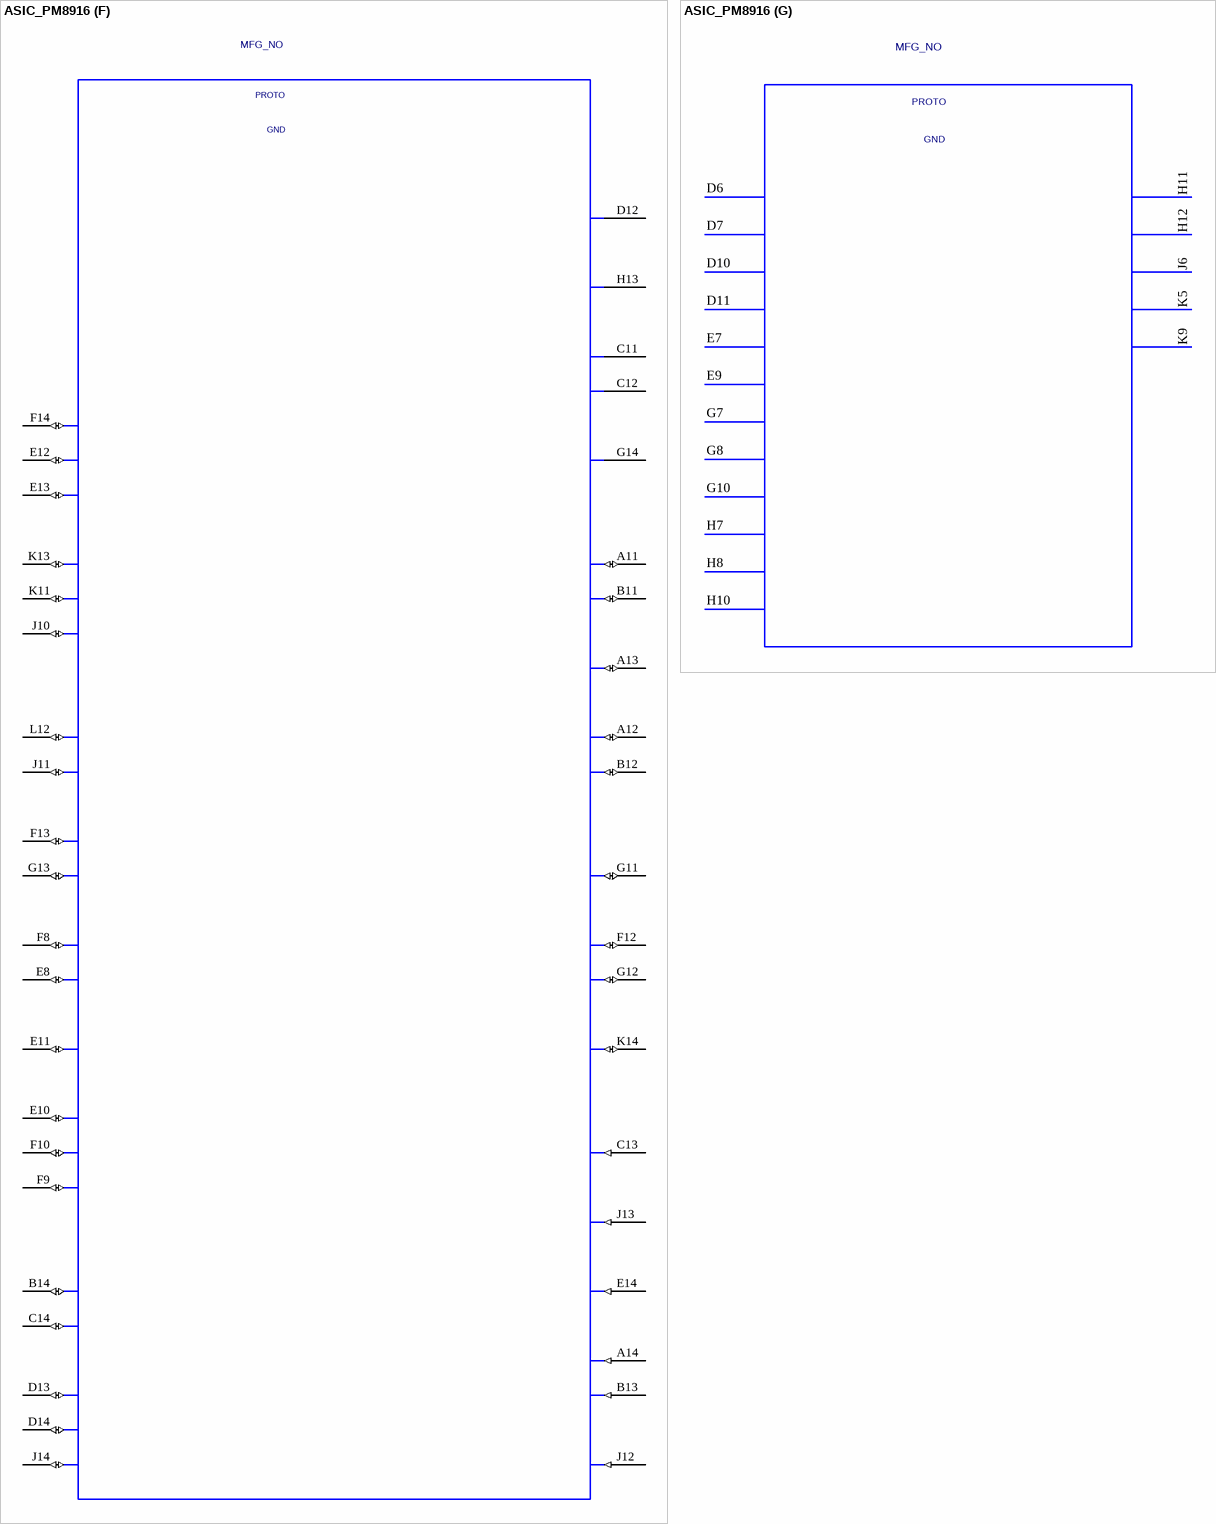
[diagram p11: symbol ASIC_PM8916]

## ASIC_PM8916
designator REF?  SYMNAME: GND  PART_ID: MFG_NO  BLOCKID: PROTO  (hidden comment: ASIC_PM8916)
PART_NUMBER: MCN_NO; OriginalSymbolOrigin: (-1050,1125); SPLIT_INST: TRUE; CDS_LMAN_SYM_OUTLINE: -850,1125,875,-1250; CDS_LMAN_SPLIT_NUMBER: 1 of 7; PACK_TYPE: ?
footprint PM-8916-0-176NSP-TR-00-0
part A pins: D5 OPTION1 (io), H5 OPTION2 (io), L11 VCOIN (io), M12 VBAT_SNS (io), M13 CHG_LED_SINK (io), N12 VBAT1 (io), N13 USB_IN1 (io), P12 VBAT2 (io), P13 USB_IN2 (io), P14 VPRE_BYP (io)
part B pins: A2 VREF_LPDDR2 (io), A10 SPMI_CLK (io), B10 SPMI_DATA (io), C2 AVDD_BYP (power) hidden to AVDD_BYP, C3 RESIN* (io), D1 REF_BYP (io), D2 REF_GND (in), E4 BBCLK1_EN (io), F2 BBCLK1 (io), F3 BBCLK2 (io), F5 PON_RESET* (io), F11 PA_THERM (io), G4 TEST_EN (io), G5 PS_HOLD (io), G6 SLEEP_CLK1 (io), G9 BAT_ID (io), H2 XTAL19M2_OUT (io), H3 XOISOLATION_GND (in), J1 XTAL19M2_IN (io), J2 GND_XO (in), J3 GND_RF (in), K1 VREG_XO (io), K2 XO_THERM (io), K3 VREG_RF_CLK (io), K10 KYPDPWR* (io), L1 RFCLK1 (io), L2 RFCLK2 (io), L10 CBLPWR* (io), M11 BAT_THERM (io), N10 XOADC_GND (in), N14 VREF_BAT_THERM (io)
part C pins: H6 GPIO2 (io), J4 MPP3 (io), J5 MPP4 (io), J7 GPIO1 (io), K4 MPP2 (io), L4 MPP1 (io), L8 GPIO4 (io), N11 GPIO3 (io)
part D pins: A4 GND_S1_1 (in), A5 VSW_S1_1 (io), A6 VIN_S1_1 (io), A7 VIN_S2_1 (io), A8 VSW_S2_1 (io), A9 GND_S2_1 (in), B4 GND_S1_2 (in), B5 VSW_S1_2 (io), B6 VIN_S1_2 (io), B7 VIN_S2_2 (io), B8 VSW_S2_2 (io), B9 GND_S2_2 (in), C4 GND_S1_3 (in), C5 VSW_S1_3 (io), C6 VIN_S1_3 (io), C7 VIN_S2_3 (io), C8 VSW_S2_3 (io), C9 GND_S2_3 (in), E5 VFB_S1 (io), F7 VFB_S2 (io), J8 VFB_S3 (io), K8 VFB_S4 (io), M4 VSW_S3_1 (io), M5 VIN_S3_1 (io), M6 VIN_S4_1 (io), M7 VSW_S4_1 (io), N3 GND_S3_1 (in), N4 VSW_S3_2 (io), N5 VIN_S3_2 (io), N6 VIN_S4_2 (io), N7 VSW_S4_2 (io), N8 GND_S4_1 (in), P3 GND_S3_2 (in), P4 VSW_S3_3 (io), P5 VIN_S3_3 (io), P6 VIN_S4_3 (io), P7 VSW_S4_3 (io), P8 GND_S4_2 (in)
part E pins: A1 VREG_L18 (io), A3 VREG_L17 (io), B1 VIN_GR5_A (io), B2 VIN_GR5_B (io), B3 VREG_L12 (io), C1 VREG_L9 (io), D3 VREG_L13 (io), D4 VREG_L10 (io), E1 VIN_GR4_A (io), E2 VIN_GR4_B (io), E3 VREG_L16 (io), F1 VREG_L8 (io), G1 VREG_L15 (io), G2 VREG_L14 (io), G3 VREG_L11 (io), L3 VREG_L7 (io), L13 GND_DRV (in), M1 VREG_L2 (io), M2 VIN_GR6 (io), M3 VIN_GR7 (io), M8 VREG_L6 (io), M9 VREG_L4_1 (io), M10 VREG_L4_2 (io), M14 VIB_DRV* (io), N1 VIN_GR2 (io), N2 VIN_GR1 (io), N9 VIN_GR3_A (io), P1 VREG_L3 (io), P2 VREG_L1 (io), P9 VIN_GR3_B (io), P10 VREG_L5 (io)
part F pins: A11 CDC_BOOST_VREG_5V_A (io), A12 CDC_BOOST_SW1 (io), A13 CDC_VBAT (io), A14 CDC_GND_BOOST1 (in), B11 CDC_BOOST_VREG_5V_B (io), B12 CDC_BOOST_SW2 (io), B13 CDC_GND_BOOST2 (in), B14 CDC_NCP_FLYP (io), C11 CDC_VDD_CP1 (power), C12 CDC_VDD_CP2 (power), C13 CDC_GND_CP (in), C14 CDC_NCP_FLYN (io), D12 CDC_VDDIO (power), D13 CDC_NCP_VNEG_1 (io), D14 CDC_NCP_VNEG_2 (io), E8 CDC_PDM_SYNC (io), E10 CDC_PDM_RX0 (io), E11 CDC_PDM_TX (io), E12 CDC_SPKDRV_M_1 (io), E13 CDC_SPKDRV_M_2 (io), E14 CDC_GND_SPKDRV (in), F8 CDC_PDM_CLK (io), F9 CDC_PDM_RX2 (io), F10 CDC_PDM_RX1 (io), F12 CDC_HPH_L (io), F13 CDC_EAR_P (io), F14 CDC_SPKDRV_P (io), G11 CDC_HPH_REF (io), G12 CDC_HPH_R (io), G13 CDC_EAR_M (io), G14 CDC_VDD_SPKDRV (power), H13 CDC_VDD_PA (power), J10 CDC_IN3_P (io), J11 CDC_MIC_BIAS2 (io), J12 CDC_REF_GND (in), J13 CDC_GND_CFILT (in), J14 CDC_PA_VNEG (io), K11 CDC_IN2_P (io), K13 CDC_IN1_P (io), K14 CDC_HS_DET (io), L12 CDC_MIC_BIAS1 (io)
part G pins: D6 CMN_GND_1 (in), D7 CMN_GND_2 (in), D10 CMN_GND_3 (in), D11 CMN_GND_4 (in), E7 CMN_GND_5 (in), E9 CMN_GND_6 (in), G7 CMN_GND_7 (in), G8 CMN_GND_8 (in), G10 CMN_GND_9 (in), H7 CMN_GND_10 (in), H8 CMN_GND_11 (in), H10 CMN_GND_12 (in), H11 CMN_GND_13 (in), H12 CMN_GND_14 (in), J6 CMN_GND_15 (in), K5 CMN_GND_16 (in), K9 CMN_GND_17 (in)

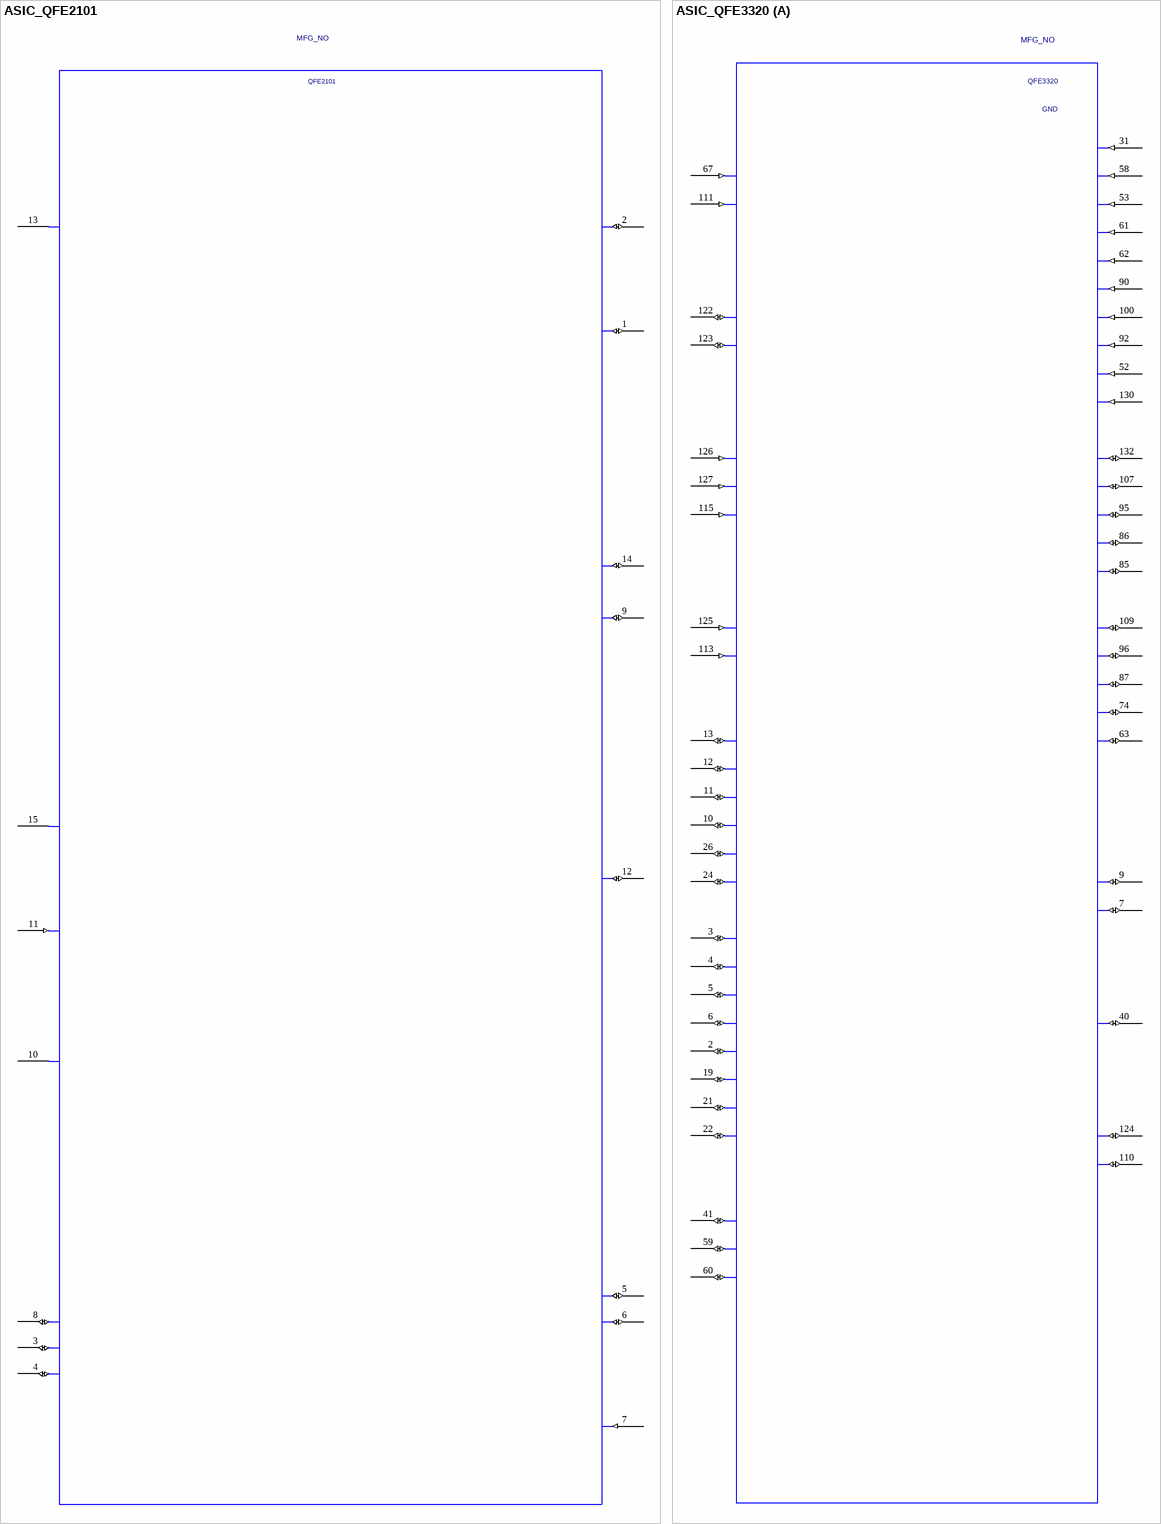
[diagram p12: symbols ASIC_QFE2101 to ASIC_QFE3320]

## ASIC_QFE2101
designator REF?, comment PART_ID: MFG_NO  BLOCKID: QFE2101  (hidden comment: asic_qfe2101)
PART_NUMBER: MCN_NO; OriginalSymbolOrigin: (-1350,3375); CDS_LMAN_SYM_OUTLINE: -1300,3375,1300,-3500; SYMNAME: asic_qfe2101; PACK_TYPE: ?
pins: 1 TPP1 (io), 2 TPP2 (io), 3 SDATA (io), 4 SCLK (io), 5 GSM_CAP1 (io), 6 GSM_CAP2 (io), 7 GND (in), 8 VTRIM_VSEL (io), 9 VAMP (io), 10 VDD_1P8 (power), 11 GND_SW (in), 12 BYP_LOAD (io), 13 VDD_BATT (power), 14 VSW (io), 15 VDD_SW (power)

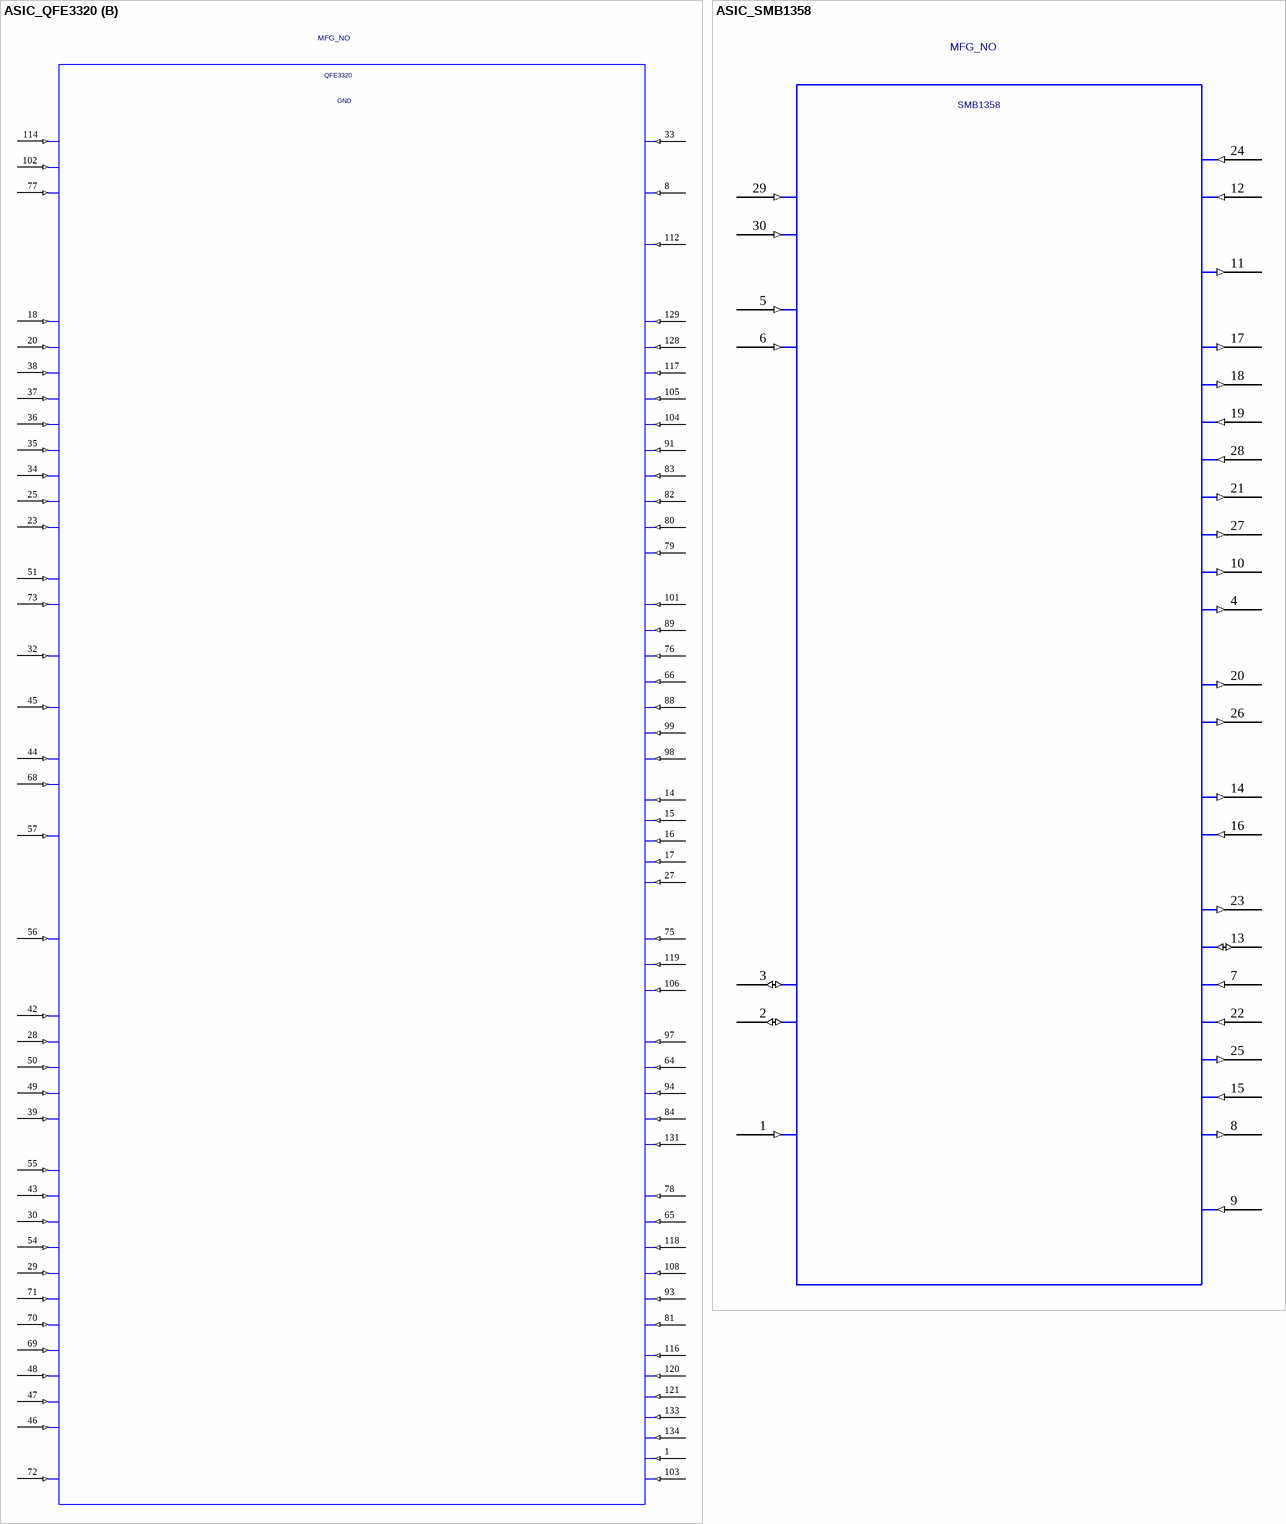
[diagram p13: symbols ASIC_QFE3320 to ASIC_SMB1358]

## ASIC_QFE3320
designator REF?  SYMNAME: GND  PART_ID: MFG_NO  BLOCKID: QFE3320  (hidden comment: ASIC_QFE3320)
PART_NUMBER: MCN_NO; OriginalSymbolOrigin: (-850,3125); SPLIT_INST: TRUE; CDS_LMAN_SYM_OUTLINE: -800,3125,800,-3250; CDS_LMAN_SPLIT_NUMBER: 1 of 2; PACK_TYPE: ?
part A pins: 2 TRX_MB5 (io), 3 TRX_MB1 (io), 4 TRX_MB2 (io), 5 TRX_MB3 (io), 6 TRX_MB4 (io), 7 ANT_MB (io), 9 ANT_LB (io), 10 TRX_LB4 (io), 11 TRX_LB3 (io), 12 TRX_LB2 (io), 13 TRX_LB1 (io), 19 TRX_MB6 (io), 21 TRX_MB7 (io), 22 TRX_MB8 (io), 24 TRX_LB6 (io), 26 TRX_LB5 (io), 31 VDD_MB_GSM_DA (in), 40 TRAP (io), 41 DNC1 (io), 52 VDD_MB_UMTS_PA (in), 53 VDD_MB_GSM_PA (in), 58 VDD_LB_GSM_DA (in), 59 DNC2 (io), 60 DNC3 (io), 61 VDD_LB_GSM_PA1 (in), 62 VDD_LB_GSM_PA2 (in), 63 TX_MB5 (io), 67 VDD_2P7 (in), 74 TX_MB4 (io), 85 TX_LB5 (io), 86 TX_LB4 (io), 87 TX_MB3 (io), 90 VDD_MB_UMTS_DA1 (in), 92 VDD_LB_UMTS_DA (in), 95 TX_LB3 (io), 96 TX_MB2 (io), 100 VDD_MB_UMTS_DA2 (in), 107 TX_LB2 (io), 109 TX_MB1 (io), 110 CP_NEG (io), 111 VDD_1P8 (in), 113 IN_MB2 (in), 115 IN_LB3 (in), 122 RFFE_CLK (io), 123 RFFE_DATA (io), 124 ANALOG_IO (io), 125 IN_MB1 (in), 126 IN_LB1 (in), 127 IN_LB2 (in), 130 VDD_LB_UMTS_PA (in), 132 TX_LB1 (io)
part B pins: 1 GND_11 (in), 8 GND_OUT3 (in), 14 GND_1 (in), 15 GND_2 (in), 16 GND_3 (in), 17 GND_4 (in), 18 GND_MB_ASM1 (in), 20 GND_MB_ASM2 (in), 23 GND_LB_ASM7 (in), 25 GND_LB_ASM6 (in), 27 GND_5 (in), 28 GND_MB_GSM_OM2 (in), 29 GND_MB_GSM_PA5 (in), 30 GND_MB_GSM_PA3 (in), 32 GND_MB_GSM_DA_BYP (in), 33 GND_OUT1 (in), 34 GND_LB_ASM5 (in), 35 GND_LB_ASM4 (in), 36 GND_LB_ASM3 (in), 37 GND_LB_ASM2 (in), 38 GND_LB_ASM1 (in), 39 GND_LB_GSM_OM3 (in), 42 GND_MB_GSM_OM1 (in), 43 GND_MB_GSM_PA2 (in), 44 GND_MB_GSM_DA (in), 45 GND_LB_GSM_DA_BYP_CAP (in), 46 GND_LB_GSM_PA6 (in), 47 GND_LB_GSM_PA5 (in), 48 GND_LB_GSM_PA4 (in), 49 GND_LB_GSM_OM2 (in), 50 GND_LB_GSM_OM1 (in), 51 GND_MB_GSM_BYP_CAP (in), 54 GND_MB_GSM_PA4 (in), 55 GND_MB_GSM_PA1 (in), 56 GND_MB_GSM_ISM (in), 57 GND_MB_GSM_IM (in), 64 GND_MB_UMTS_MODE_SW2 (in), 65 GND_MB_UMTS_PA2 (in), 66 GND_MB_UMTS_4 (in), 68 GND_LB_GSM_DA (in), 69 GND_LB_GSM_PA3 (in), 70 GND_LB_GSM_PA2 (in), 71 GND_LB_GSM_PA1 (in), 72 GND_LB_GSM_XFM (in), 73 GND_LB_GSM_BYP_CAP (in), 75 GND_MB_UMTS_OM (in), 76 GND_MB_UMTS_3 (in), 77 GND_AN3 (in), 78 GND_MB_UMTS_PA1 (in), 79 GND_LB_UMTS_10 (in), 80 GND_LB_UMTS_9 (in), 81 GND_LB_UMTS_PA4 (in), 82 GND_LB_UMTS_8 (in), 83 GND_LB_UMTS_7 (in), 84 GND_LB_UMTS_MODE_SW2 (in), 88 GND_MB_UMTS_5 (in), 89 GND_MB_UMTS_2 (in), 91 GND_LB_UMTS_6 (in), 93 GND_LB_UMTS_PA3 (in), 94 GND_LB_UMTS_MODE_SW1 (in), 97 GND_MB_UMTS_MODE_SW1 (in), 98 GND_MB_UMTS_7 (in), 99 GND_MB_UMTS_6 (in), 101 GND_MB_UMTS_1 (in), 102 GND_AN2 (in), 103 GND_12 (in), 104 GND_LB_UMTS_5 (in), 105 GND_LB_UMTS_4 (in), 106 GND_LB_UMTS_OM2 (in), 108 GND_LB_UMTS_PA2 (in), 112 GND_DIG (in), 114 GND_AN1 (in), 116 GND_6 (in), 117 GND_LB_UMTS_3 (in), 118 GND_LB_UMTS_PA1 (in), 119 GND_LB_UMTS_OM1 (in), 120 GND_7 (in), 121 GND_8 (in), 128 GND_LB_UMTS_2 (in), 129 GND_LB_UMTS_1 (in), 131 GND_LB_UMTS_MODE_SW3 (in), 133 GND_9 (in), 134 GND_10 (in)

## ASIC_SMB1358
designator REF?, comment PART_ID: MFG_NO  BLOCKID: SMB1358  (hidden comment: asic_smb1358)
PART_NUMBER: MCN_NO; OriginalSymbolOrigin: (-725,2000); CDS_LMAN_SYM_OUTLINE: -675,2000,675,-2000; SYMNAME: asic_smb1358; PACK_TYPE: ?
pins: 1 OTG (in), 2 DP (io), 3 DM (io), 4 SYSON (out), 5 USBIN1 (in), 6 USBIN2 (in), 7 SCL (in), 8 SYSOK (out), 9 USB5 (in), 10 BIAS (out), 11 BOOT (out), 12 MIDUSBIN (in), 13 SDA (io), 14 VBATT (out), 15 SUSP (in), 16 THERM (in), 17 SW1 (out), 18 SW2 (out), 19 GND (in), 20 CHGOUT1 (out), 21 VSYS1 (out), 22 EN (in), 23 VCHG (out), 24 MIDDCIN (in), 25 STAT (out), 26 CHGOUT2 (out), 27 VSYS2 (out), 28 PGND (in), 29 DCIN1 (in), 30 DCIN2 (in)

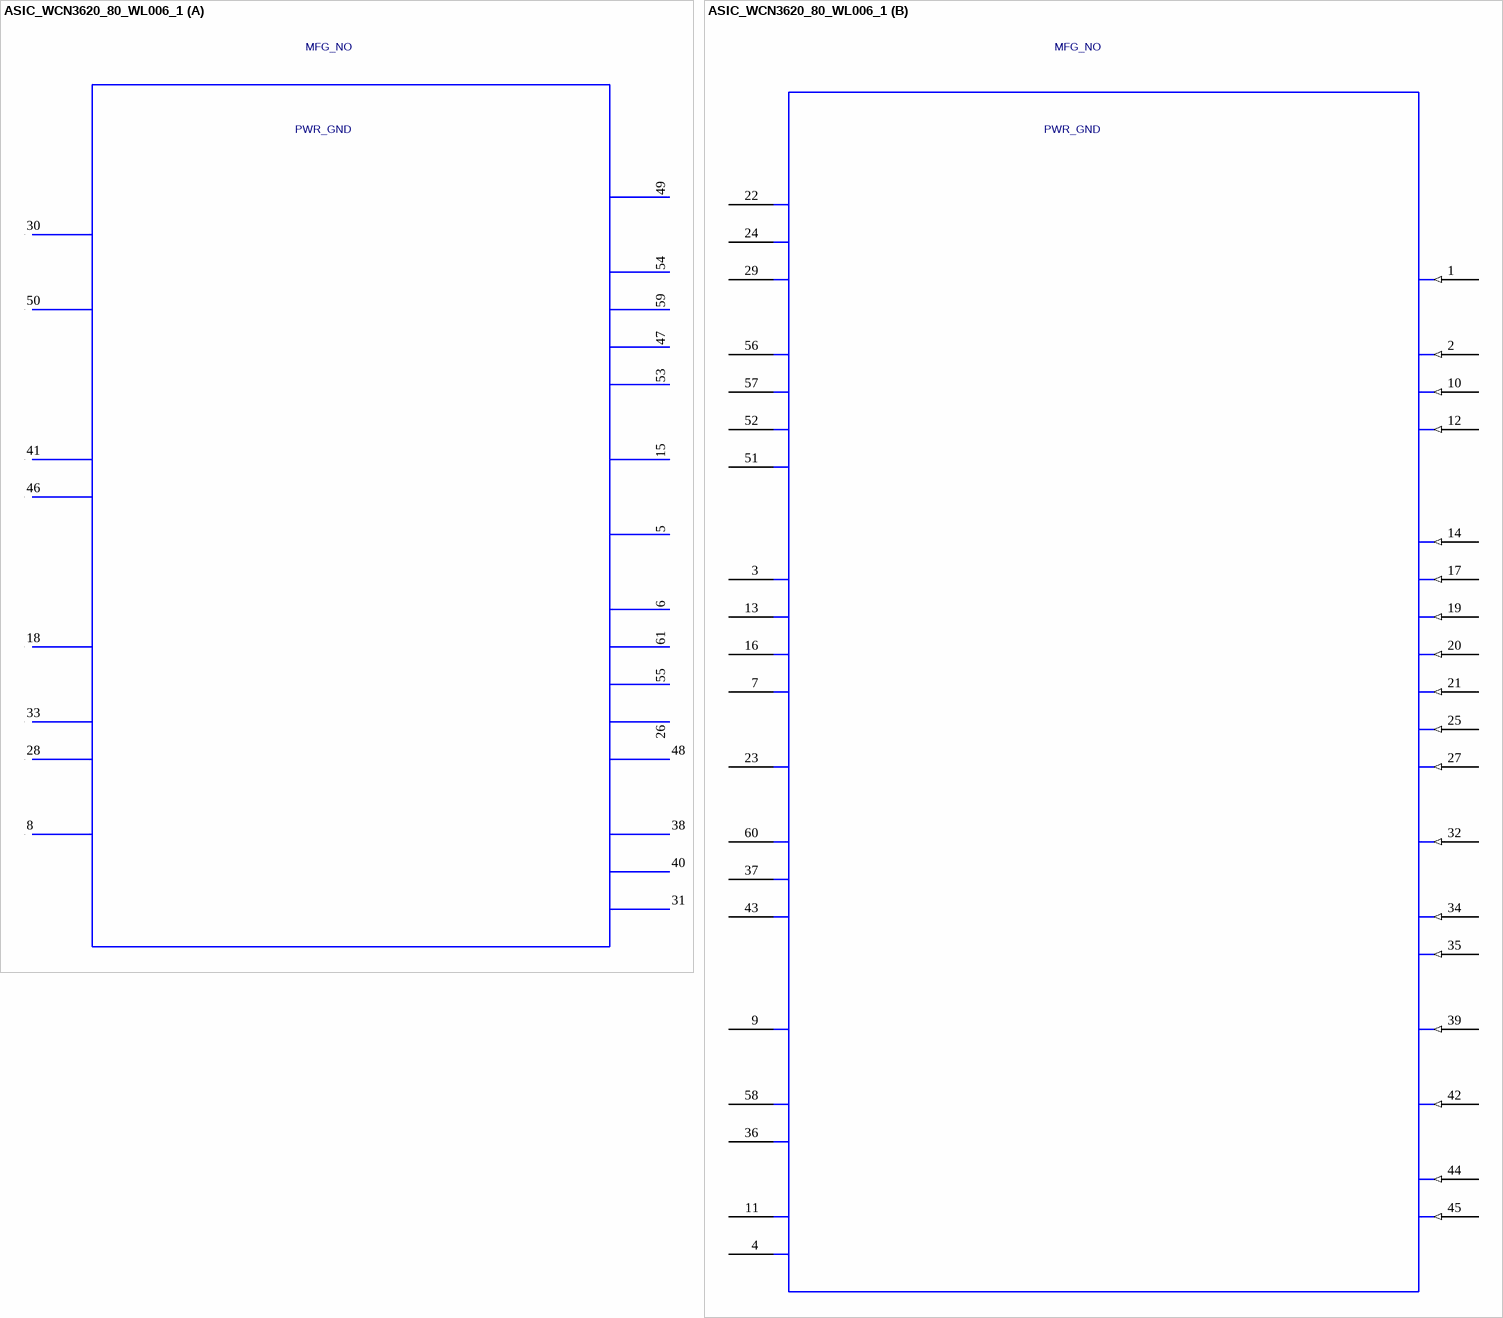
[diagram p14: symbol ASIC_WCN3620_80_WL006_1]

## ASIC_WCN3620_80_WL006_1
designator REF?  SYMNAME: PWR_GND  PART_ID: MFG_NO  (hidden comment: ASIC_WCN3620_80_WL006_1)
PART_NUMBER: MCN_NO; OriginalSymbolOrigin: (-1075,1375); SPLIT_INST: TRUE; CDS_LMAN_SYM_OUTLINE: -850,1375,875,-1500; CDS_LMAN_SPLIT_NUMBER: 1 of 2; PACK_TYPE: ?
footprint WCN-3620-0-61WLNSP-TR-05-0
part A pins: 5 WL_BT_RFIO (io), 6 WL_CMD_SET (io), 8 GND1 (in), 15 NC1 (io), 18 BT_CTL (io), 26 WL_CMD_DATA1 (io), 28 BT_DATA (io), 30 TCXO_IN (io), 31 NC2 (io), 33 BT_SSBI (io), 38 NC4 (io), 40 NC3 (io), 41 FM_SSBI (io), 46 FM_DATA (io), 47 WL_BB_QN (io), 48 WL_CMD_DATA0 (io), 49 WL_PDET_IN (io), 50 FM_HS_RX (io), 53 WL_BB_QP (io), 54 WL_BB_IP (io), 55 WL_CMD_DATA2 (io), 59 WL_BB_IN (io), 61 WL_CMD_CLK (io)
part B pins: 1 GND2 (in), 2 GND3 (in), 3 VDD_BT_RF_1P3 (power), 4 VDD_BT_DA_3P0 (power), 7 VDD_BT_VCO_1P3 (power), 9 VDD_WL_2GLNA_1P3 (power), 10 GND4 (in), 11 VDD_WL_2GPA_3P0 (power), 12 GND5 (in), 13 VDD_BT_BB_1P3 (power), 14 GND6 (in), 16 VDD_BT_PLL_1P3 (power), 17 GND7 (in), 19 GND8 (in), 20 GND9 (in), 21 GND10 (in), 22 VDD_IO_1P8 (power), 23 VDD_BT_FM_DIG_1P3 (power), 24 VDD_XO_1P8 (power), 25 GND11 (in), 27 GND12 (in), 29 VDD_DIG_1P2 (power), 32 GND13 (in), 34 GND14 (in), 35 GND15 (in), 36 VDD_WL_LO_1P3 (power), 37 VDD_WL_2GPA_1P3 (power), 39 GND16 (in), 42 GND17 (in), 43 VDD_WL_UPC_1P3 (power), 44 GND18 (in), 45 GND19 (in), 51 VDD_FM_VCO_1P3 (power), 52 VDD_FM_PLL_1P3 (power), 56 VDD_FM_RXFE_1P3 (power), 57 VDD_FM_RXBB_1P3 (power), 58 VDD_WL_PLL_1P3 (power), 60 VDD_WL_BB_1P3 (power)

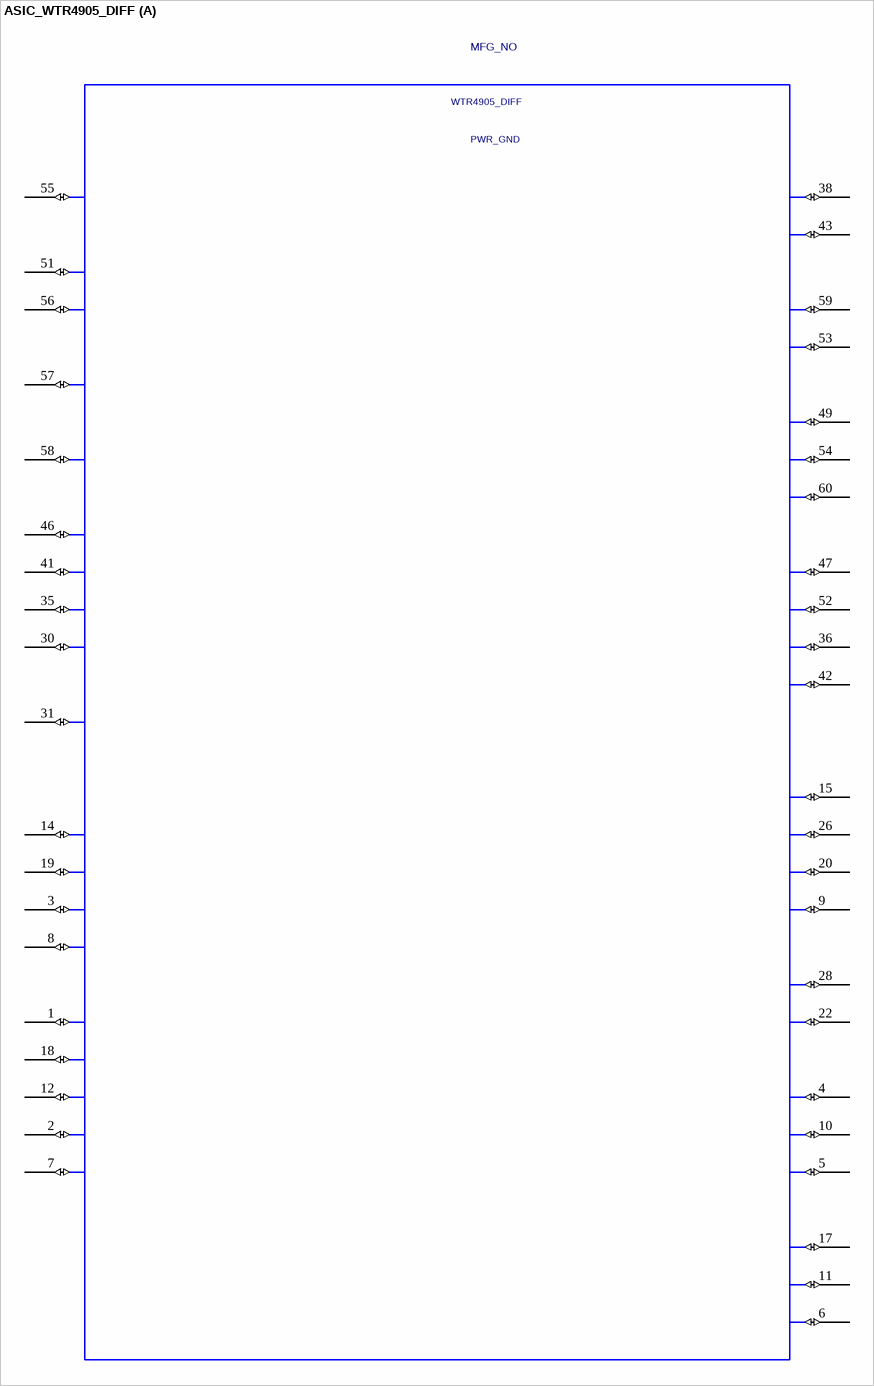
[diagram p15: symbol ASIC_WTR4905_DIFF]

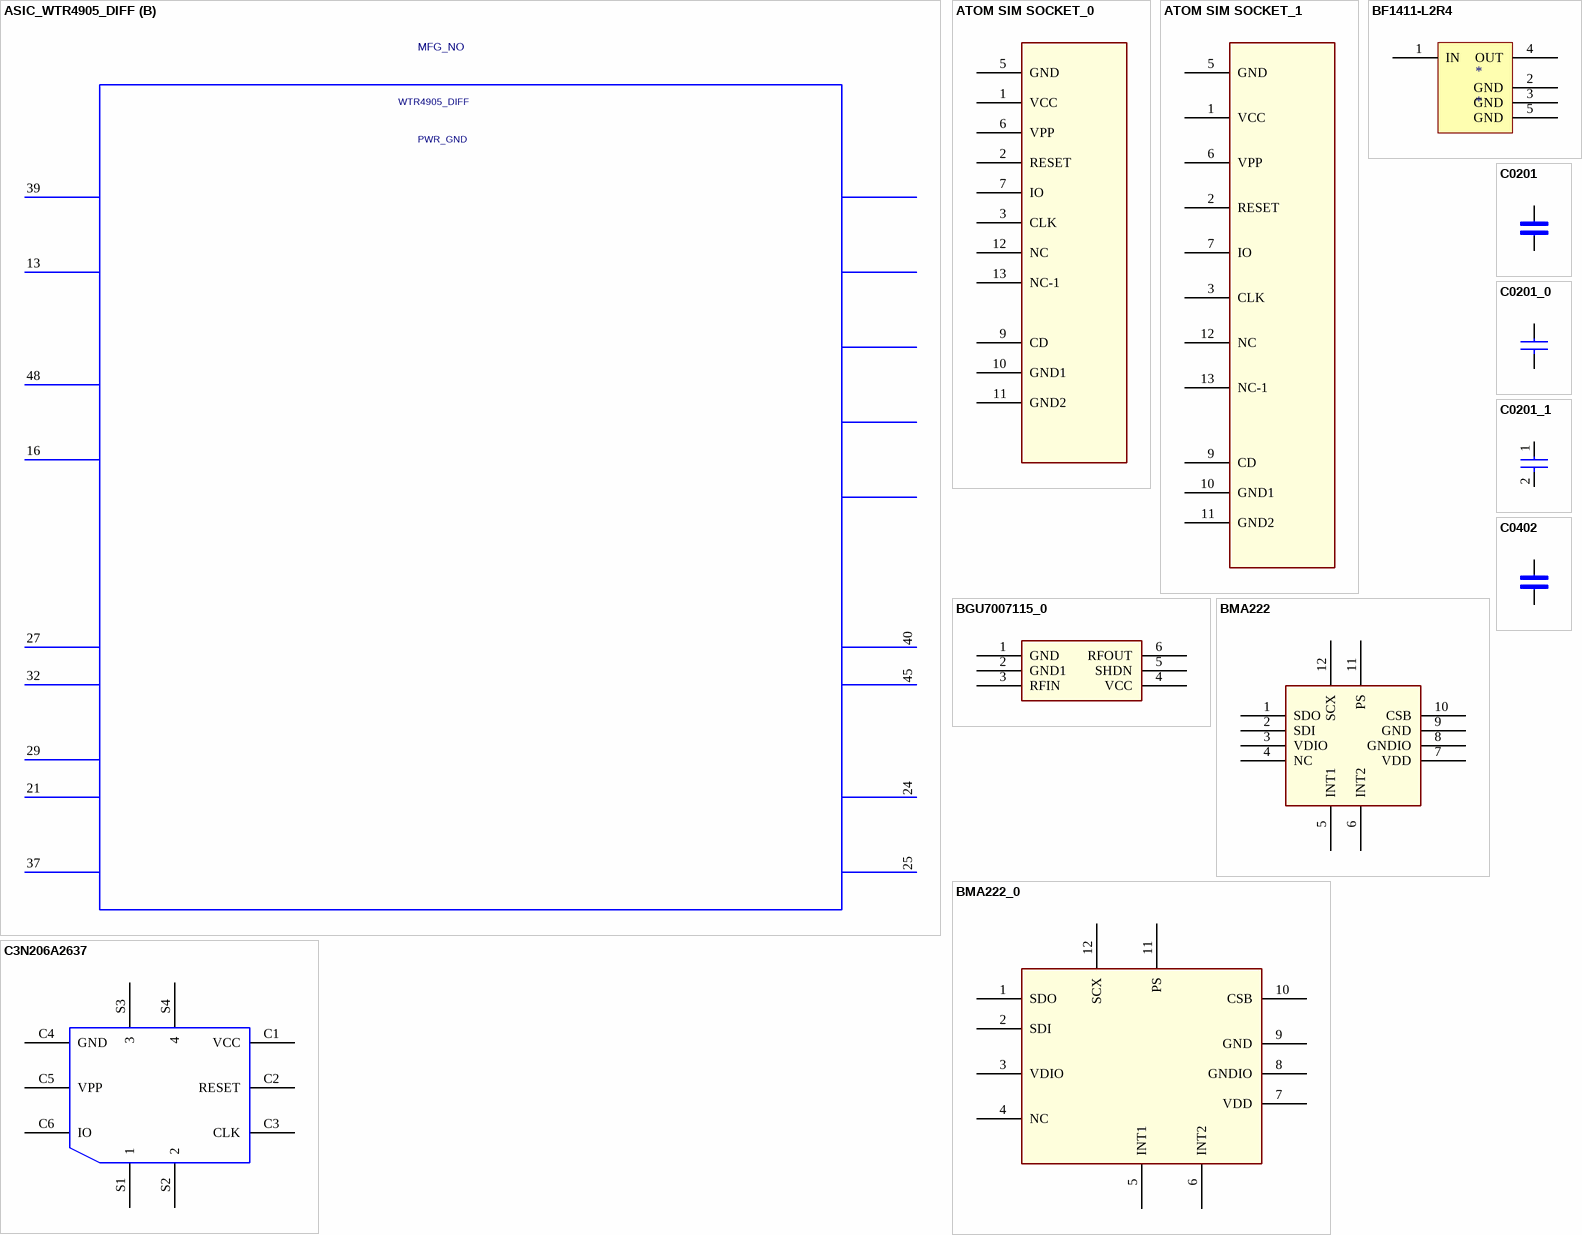
[diagram p16: symbols ASIC_WTR4905_DIFF to C0402]

## ASIC_WTR4905_DIFF
designator REF?  SYMNAME: PWR_GND  PART_ID: MFG_NO  BLOCKID: WTR4905_DIFF  (hidden comment: ASIC_WTR4905_DIFF)
PART_NUMBER: MCN_NO; OriginalSymbolOrigin: (-1225,2150); SPLIT_INST: TRUE; CDS_LMAN_SYM_OUTLINE: -1175,2125,1175,-2125; CDS_LMAN_SPLIT_NUMBER: 1 of 2; PACK_TYPE: ?
part A pins: 1 TX_DA1 (io), 2 TX_DA4 (io), 3 TX_BB_QP (io), 4 PRX_MB1 (io), 5 PRX_MB3 (io), 6 PRX_LB3 (io), 7 TX_DA5 (io), 8 TX_BB_QM (io), 9 PRX_BB_QM (io), 10 PRX_MB2 (io), 11 PRX_LB2 (io), 12 TX_DA3 (io), 14 TX_BB_IP (io), 15 PRX_BB_IP (io), 17 PRX_LB1 (io), 18 TX_DA2 (io), 19 TX_BB_IM (io), 20 PRX_BB_QP (io), 22 PRX_HB2 (io), 26 PRX_BB_IM (io), 28 PRX_HB1 (io), 30 GNSS_BB_QM (io), 31 FBRX_RFIP (io), 35 GNSS_BB_QP (io), 36 DRX_BB_QP (io), 38 DRX_HB1 (io), 41 GNSS_BB_IM (io), 42 DRX_BB_QM (io), 43 DRX_HB2 (io), 46 GNSS_BB_IP (io), 47 DRX_BB_IP (io), 49 DRX_LB1 (io), 51 RFFE_CLK (io), 52 DRX_BB_IM (io), 53 DRX_MB2 (io), 54 DRX_LB2 (io), 55 XO_IN (io), 56 RFFE_DATA (io), 57 GP_DATA (io), 58 GNSS_IN (io), 59 DRX_MB1 (io), 60 DRX_LB3 (io)
part B pins: 13 GND_DA (in), 16 GND_PRX_LNA (in), 21 GND_RX_LO (in), 23 VDD_RF1_TX (power) hidden to VDD_RF1_TX, 24 GND_TXLO (in), 25 GND_TXBBF (in), 27 GND_RX_VCO (in), 29 GND_ISO (in), 32 GND_RX_PLL (in), 33 VDD_RF1_RX (power) hidden to VDD_RF1_RX, 34 VDD_RF2_LDO (power) hidden to VDD_RF2_LDO, 37 GND_GPS_RXLO (in), 39 GND_XO (in), 40 GND_TX_VCO (in), 44 VDD_RF2 (power) hidden to VDD_RF2, 45 GND_TX_PLL (in), 48 GND_DRX_LNA (in), 50 VDD_RF1_DIG (power) hidden to VDD_RF1_DIG

## ATOM SIM SOCKET_0
designator U?
pins: 1 VCC, 2 RESET, 3 CLK, 5 GND, 6 VPP, 7 IO, 9 CD, 10 GND1 (power), 11 GND2 (power), 12 NC, 13 NC-1

## ATOM SIM SOCKET_1
designator U?
pins: 1 VCC, 2 RESET, 3 CLK, 5 GND, 6 VPP, 7 IO, 9 CD, 10 GND1 (power), 11 GND2 (power), 12 NC, 13 NC-1

## BF1411-L2R4
designator *
pins: 1 IN, 2 GND, 3 GND, 4 OUT, 5 GND

## BGU7007115_0
designator U?
PCB Footprint: USB8-B3
pins: 1 GND, 2 GND1, 3 RFIN, 4 VCC, 5 SHDN, 6 RFOUT

## BMA222
designator U?
pins: 1 SDO, 2 SDI, 3 VDIO, 4 NC, 5 INT1, 6 INT2, 7 VDD, 8 GNDIO, 9 GND, 10 CSB, 11 PS, 12 SCX

## BMA222_0
designator U?
pins: 1 SDO, 2 SDI, 3 VDIO, 4 NC, 5 INT1, 6 INT2, 7 VDD, 8 GNDIO, 9 GND, 10 CSB, 11 PS, 12 SCX

## C3N206A2637
designator CON?
footprint SIM-WKSM019-1511
pins: C1 VCC, C2 RESET, C3 CLK, C4 GND, C5 VPP, C6 IO, S1 1, S2 2, S3 3, S4 4

## C0201
designator C?
pins: 1 PIN1, 2 PIN2

## C0201_0
designator C?
pins: 1, 2

## C0201_1
designator C?
pins: 1, 2

## C0402
designator C?
footprint C0402
pins: 1 PIN1, 2 PIN2

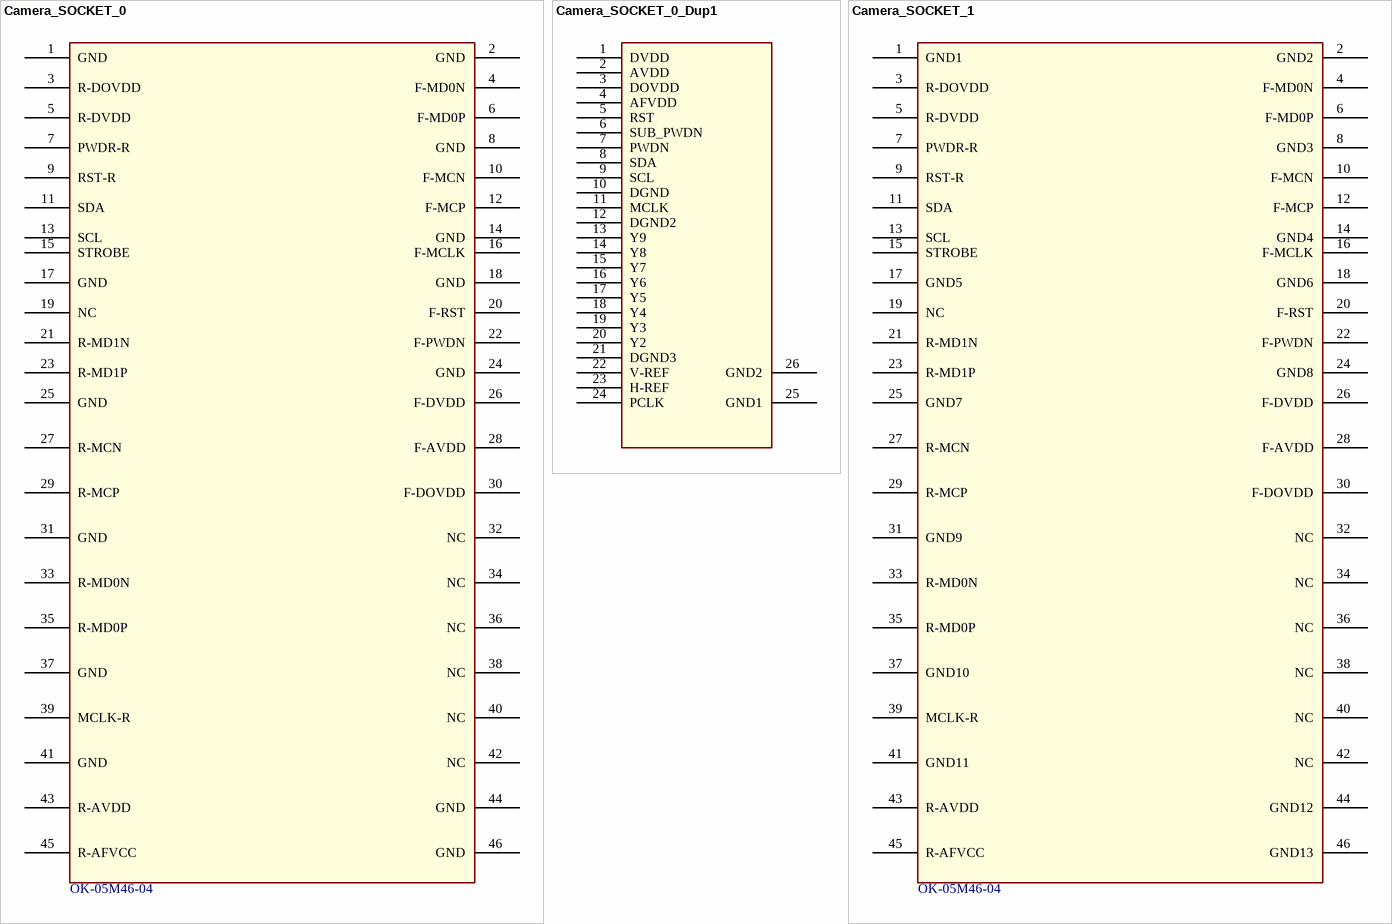
[diagram p17: symbols Camera_SOCKET_0 to Camera_SOCKET_1]

## Camera_SOCKET_0
designator J?, comment OK-05M46-04
footprint ELJ_L50124_24PIN_0_5PJ_H2_0
pins: 1 GND, 2 GND, 3 R-DOVDD, 4 F-MD0N, 5 R-DVDD, 6 F-MD0P, 7 PWDR-R, 8 GND, 9 RST-R, 10 F-MCN, 11 SDA, 12 F-MCP, 13 SCL, 14 GND, 15 STROBE, 16 F-MCLK, 17 GND, 18 GND, 19 NC, 20 F-RST, 21 R-MD1N, 22 F-PWDN, 23 R-MD1P, 24 GND, 25 GND, 26 F-DVDD, 27 R-MCN, 28 F-AVDD, 29 R-MCP, 30 F-DOVDD, 31 GND, 32 NC, 33 R-MD0N, 34 NC, 35 R-MD0P, 36 NC, 37 GND, 38 NC, 39 MCLK-R, 40 NC, 41 GND, 42 NC, 43 R-AVDD, 44 GND, 45 R-AFVCC, 46 GND

## Camera_SOCKET_0_Dup1
designator J?
footprint ELJ_L50124_24PIN_0_5PJ_H2_0
pins: 1 DVDD, 2 AVDD, 3 DOVDD, 4 AFVDD, 5 RST, 6 SUB_PWDN, 7 PWDN, 8 SDA, 9 SCL, 10 DGND, 11 MCLK, 12 DGND2, 13 Y9, 14 Y8, 15 Y7, 16 Y6, 17 Y5, 18 Y4, 19 Y3, 20 Y2, 21 DGND3, 22 V-REF, 23 H-REF, 24 PCLK, 25 GND1, 26 GND2

## Camera_SOCKET_1
designator J?, comment OK-05M46-04
footprint ELJ_L50124_24PIN_0_5PJ_H2_0
pins: 1 GND1, 2 GND2, 3 R-DOVDD, 4 F-MD0N, 5 R-DVDD, 6 F-MD0P, 7 PWDR-R, 8 GND3, 9 RST-R, 10 F-MCN, 11 SDA, 12 F-MCP, 13 SCL, 14 GND4, 15 STROBE, 16 F-MCLK, 17 GND5, 18 GND6, 19 NC, 20 F-RST, 21 R-MD1N, 22 F-PWDN, 23 R-MD1P, 24 GND8, 25 GND7, 26 F-DVDD, 27 R-MCN, 28 F-AVDD, 29 R-MCP, 30 F-DOVDD, 31 GND9, 32 NC, 33 R-MD0N, 34 NC, 35 R-MD0P, 36 NC, 37 GND10, 38 NC, 39 MCLK-R, 40 NC, 41 GND11, 42 NC, 43 R-AVDD, 44 GND12, 45 R-AFVCC, 46 GND13

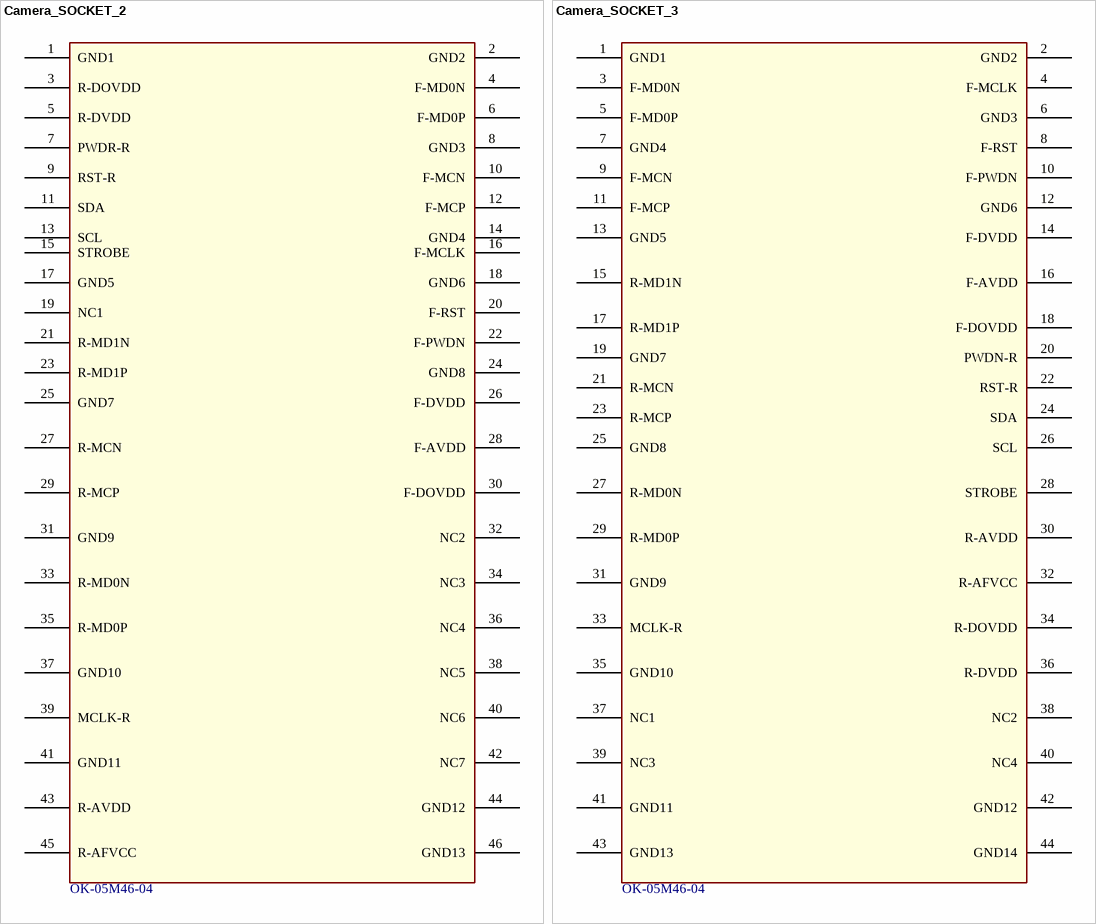
[diagram p18: symbols Camera_SOCKET_2 to Camera_SOCKET_3]

## Camera_SOCKET_2
designator J?, comment OK-05M46-04
footprint ELJ_L50124_24PIN_0_5PJ_H2_0
pins: 1 GND1, 2 GND2, 3 R-DOVDD, 4 F-MD0N, 5 R-DVDD, 6 F-MD0P, 7 PWDR-R, 8 GND3, 9 RST-R, 10 F-MCN, 11 SDA, 12 F-MCP, 13 SCL, 14 GND4, 15 STROBE, 16 F-MCLK, 17 GND5, 18 GND6, 19 NC1, 20 F-RST, 21 R-MD1N, 22 F-PWDN, 23 R-MD1P, 24 GND8, 25 GND7, 26 F-DVDD, 27 R-MCN, 28 F-AVDD, 29 R-MCP, 30 F-DOVDD, 31 GND9, 32 NC2, 33 R-MD0N, 34 NC3, 35 R-MD0P, 36 NC4, 37 GND10, 38 NC5, 39 MCLK-R, 40 NC6, 41 GND11, 42 NC7, 43 R-AVDD, 44 GND12, 45 R-AFVCC, 46 GND13

## Camera_SOCKET_3
designator J?, comment OK-05M46-04
footprint ELJ_L50124_24PIN_0_5PJ_H2_0
pins: 1 GND1, 2 GND2, 3 F-MD0N, 4 F-MCLK, 5 F-MD0P, 6 GND3, 7 GND4, 8 F-RST, 9 F-MCN, 10 F-PWDN, 11 F-MCP, 12 GND6, 13 GND5, 14 F-DVDD, 15 R-MD1N, 16 F-AVDD, 17 R-MD1P, 18 F-DOVDD, 19 GND7, 20 PWDN-R, 21 R-MCN, 22 RST-R, 23 R-MCP, 24 SDA, 25 GND8, 26 SCL, 27 R-MD0N, 28 STROBE, 29 R-MD0P, 30 R-AVDD, 31 GND9, 32 R-AFVCC, 33 MCLK-R, 34 R-DOVDD, 35 GND10, 36 R-DVDD, 37 NC1, 38 NC2, 39 NC3, 40 NC4, 41 GND11, 42 GND12, 43 GND13, 44 GND14

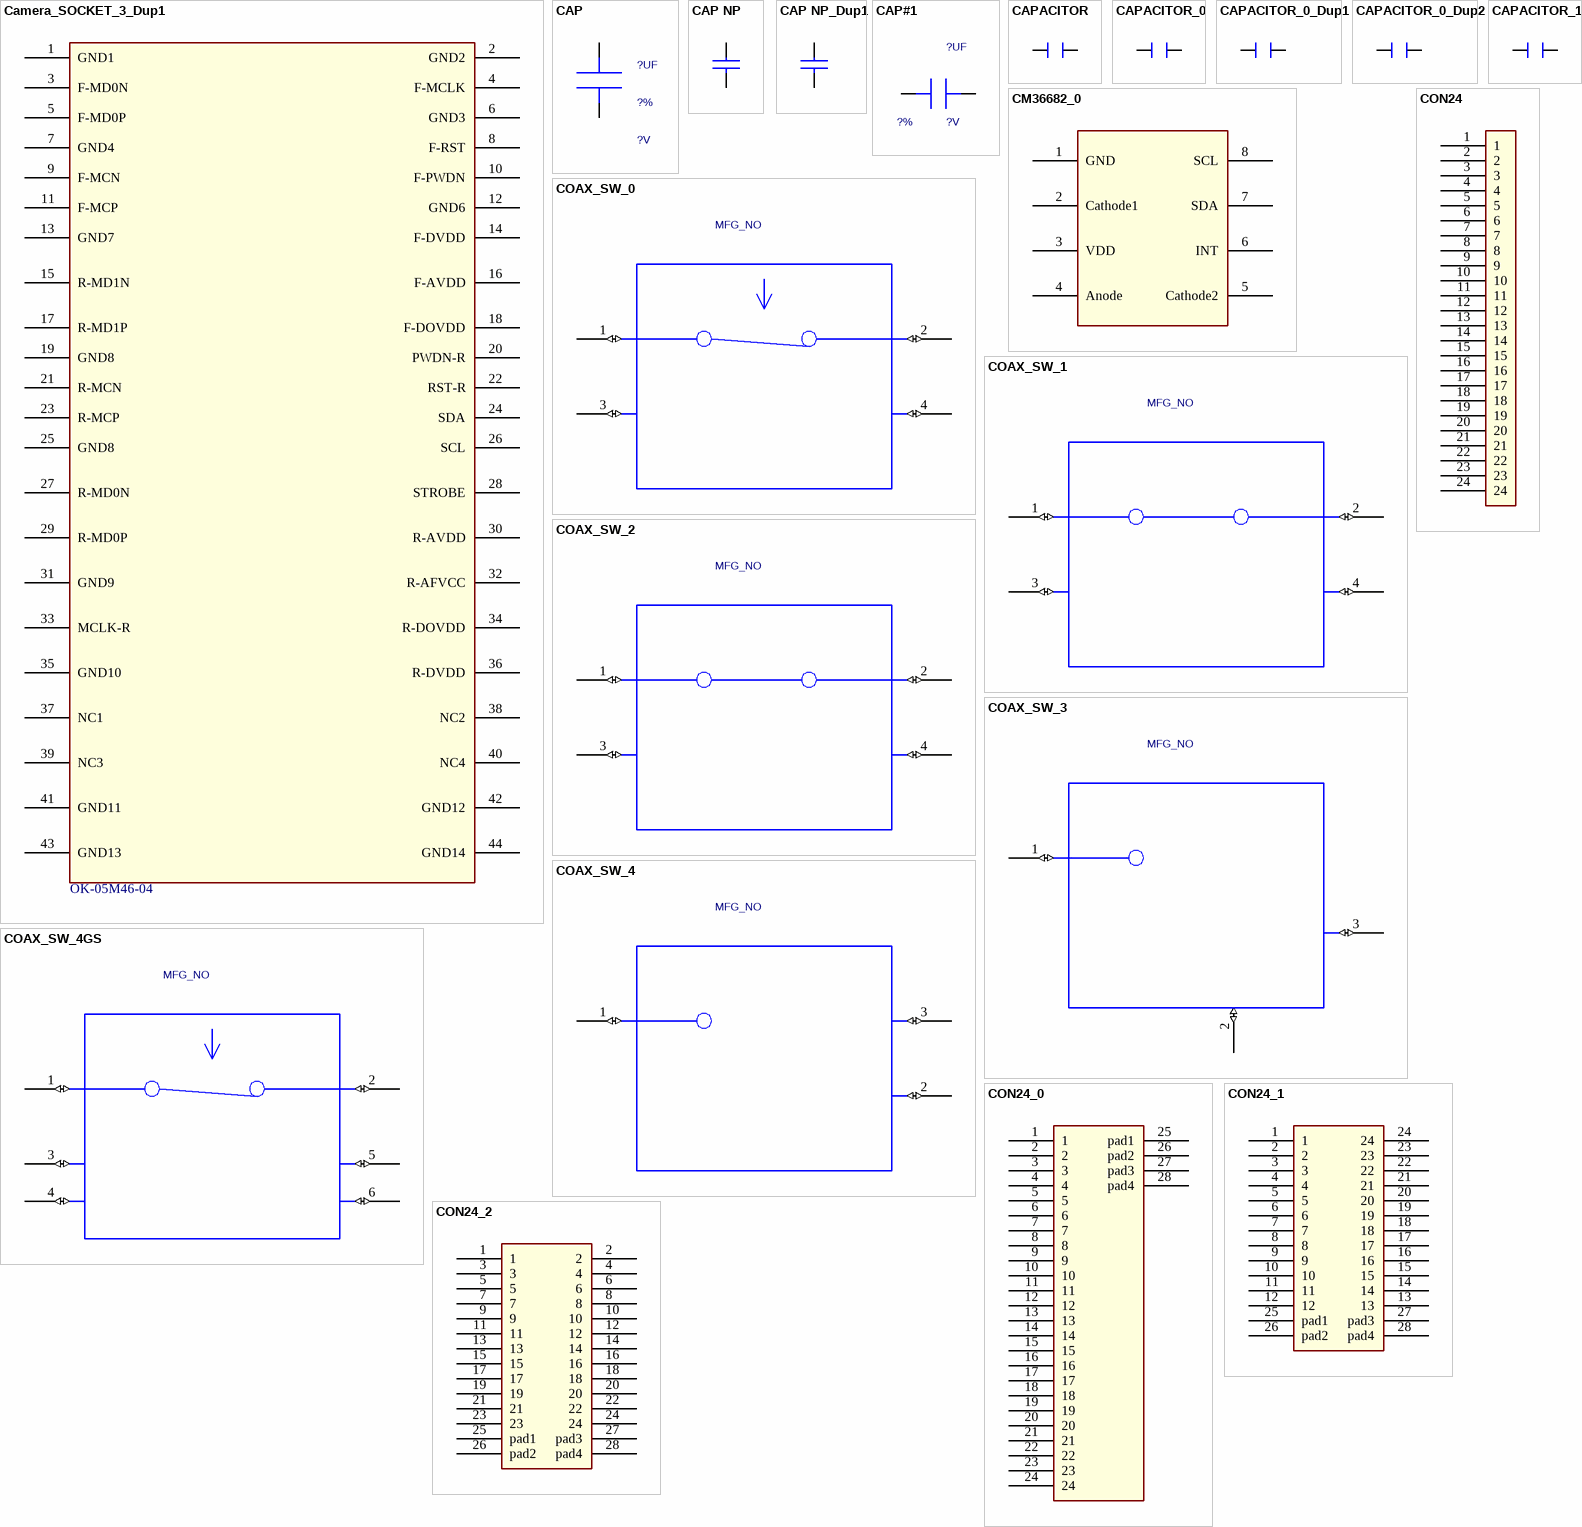
[diagram p19: symbols Camera_SOCKET_3_Dup1 to CON24_2]

## Camera_SOCKET_3_Dup1
designator J?, comment OK-05M46-04
footprint ELJ_L50124_24PIN_0_5PJ_H2_0
pins: 1 GND1, 2 GND2, 3 F-MD0N, 4 F-MCLK, 5 F-MD0P, 6 GND3, 7 GND4, 8 F-RST, 9 F-MCN, 10 F-PWDN, 11 F-MCP, 12 GND6, 13 GND7, 14 F-DVDD, 15 R-MD1N, 16 F-AVDD, 17 R-MD1P, 18 F-DOVDD, 19 GND8, 20 PWDN-R, 21 R-MCN, 22 RST-R, 23 R-MCP, 24 SDA, 25 GND8, 26 SCL, 27 R-MD0N, 28 STROBE, 29 R-MD0P, 30 R-AVDD, 31 GND9, 32 R-AFVCC, 33 MCLK-R, 34 R-DOVDD, 35 GND10, 36 R-DVDD, 37 NC1, 38 NC2, 39 NC3, 40 NC4, 41 GND11, 42 GND12, 43 GND13, 44 GND14

## CAP
designator REF?, comment ?UF  VOLT: ?V  Tolerance: ?%
PART_NUMBER: MCN_NO; PART_ID: MFG_NO; OriginalSymbolOrigin: (-100,75); SYMNAME: CAP; CDS_LMAN_SYM_OUTLINE: -75,25,75,-25; PACK_TYPE: ?
pins: 1 POS (io), 2 NEG (io)

## CAP NP
designator C?
pins: 1, 2

## CAP NP_Dup1
designator C?
pins: 1, 2

## CAP#1
designator REF?, comment ?UF  VOLT: ?V  Tolerance: ?%
PART_NUMBER: MCN_NO; PART_ID: MFG_NO; OriginalSymbolOrigin: (-75,50); SYMNAME: CAP; CDS_LMAN_SYM_OUTLINE: -25,50,25,-50; PACK_TYPE: ?
pins: 1 POS (io), 2 NEG (io)

## CAPACITOR
designator C?
pins: 1, 2

## CAPACITOR_0
designator C?
pins: 1, 2

## CAPACITOR_0_Dup1
designator C?
pins: 1, 2

## CAPACITOR_0_Dup2
designator C?
pins: 1, 2

## CAPACITOR_1
designator C?
pins: 1, 2

## CM36682_0
designator U?
pins: 1 GND, 2 Cathode1, 3 VDD, 4 Anode, 5 Cathode2, 6 INT, 7 SDA, 8 SCL

## COAX_SW_0
designator REF?, comment PART_ID: MFG_NO  (hidden comment: coax_sw_4gs)
PART_NUMBER: MCN_NO; OriginalSymbolOrigin: (-475,375); CDS_LMAN_SYM_OUTLINE: -425,375,425,-375; SYMNAME: coax_sw_4gs; PACK_TYPE: ?
pins: 1 IN (io), 2 OUT (io), 3 GND1 (io), 4 GND2 (io)

## COAX_SW_1
designator REF?, comment PART_ID: MFG_NO  (hidden comment: coax_sw_4gs)
PART_NUMBER: MCN_NO; OriginalSymbolOrigin: (-475,375); CDS_LMAN_SYM_OUTLINE: -425,375,425,-375; SYMNAME: coax_sw_4gs; PACK_TYPE: ?
pins: 1 IN (io), 2 OUT (io), 3 GND1 (io), 4 GND2 (io)

## COAX_SW_2
designator REF?, comment PART_ID: MFG_NO  (hidden comment: coax_sw_4gs)
PART_NUMBER: MCN_NO; OriginalSymbolOrigin: (-475,375); CDS_LMAN_SYM_OUTLINE: -425,375,425,-375; SYMNAME: coax_sw_4gs; PACK_TYPE: ?
pins: 1 IN (io), 2 OUT (io), 3 GND1 (io), 4 GND2 (io)

## COAX_SW_3
designator REF?, comment PART_ID: MFG_NO  (hidden comment: coax_sw_4gs)
PART_NUMBER: MCN_NO; OriginalSymbolOrigin: (-475,375); CDS_LMAN_SYM_OUTLINE: -425,375,425,-375; SYMNAME: coax_sw_4gs; PACK_TYPE: ?
pins: 1 IN (io), 2 GND1 (io), 3 GND2 (io)

## COAX_SW_4
designator REF?, comment PART_ID: MFG_NO  (hidden comment: coax_sw_4gs)
PART_NUMBER: MCN_NO; OriginalSymbolOrigin: (-475,375); CDS_LMAN_SYM_OUTLINE: -425,375,425,-375; SYMNAME: coax_sw_4gs; PACK_TYPE: ?
pins: 1 IN (io), 2 GND1 (io), 3 GND2 (io)

## COAX_SW_4GS
designator REF?, comment PART_ID: MFG_NO  (hidden comment: coax_sw_4gs)
PART_NUMBER: MCN_NO; OriginalSymbolOrigin: (-475,375); CDS_LMAN_SYM_OUTLINE: -425,375,425,-375; SYMNAME: coax_sw_4gs; PACK_TYPE: ?
pins: 1 IN (io), 2 OUT (io), 3 GND1 (io), 4 GND2 (io), 5 GND3 (io), 6 GND4 (io)

## CON24
designator CN?
pins: 1, 2, 3, 4, 5, 6, 7, 8, 9, 10, 11, 12, 13, 14, 15, 16, 17, 18, 19, 20, 21, 22, 23, 24

## CON24_0
designator CN?
pins: 1, 2, 3, 4, 5, 6, 7, 8, 9, 10, 11, 12, 13, 14, 15, 16, 17, 18, 19, 20, 21, 22, 23, 24, 25 pad1, 26 pad2, 27 pad3, 28 pad4

## CON24_1
designator CN?
pins: 1, 2, 3, 4, 5, 6, 7, 8, 9, 10, 11, 12, 13, 14, 15, 16, 17, 18, 19, 20, 21, 22, 23, 24, 25 pad1, 26 pad2, 27 pad3, 28 pad4

## CON24_2
designator CN?
pins: 1, 2, 3, 4, 5, 6, 7, 8, 9, 10, 11, 12, 13, 14, 15, 16, 17, 18, 19, 20, 21, 22, 23, 24, 25 pad1, 26 pad2, 27 pad3, 28 pad4

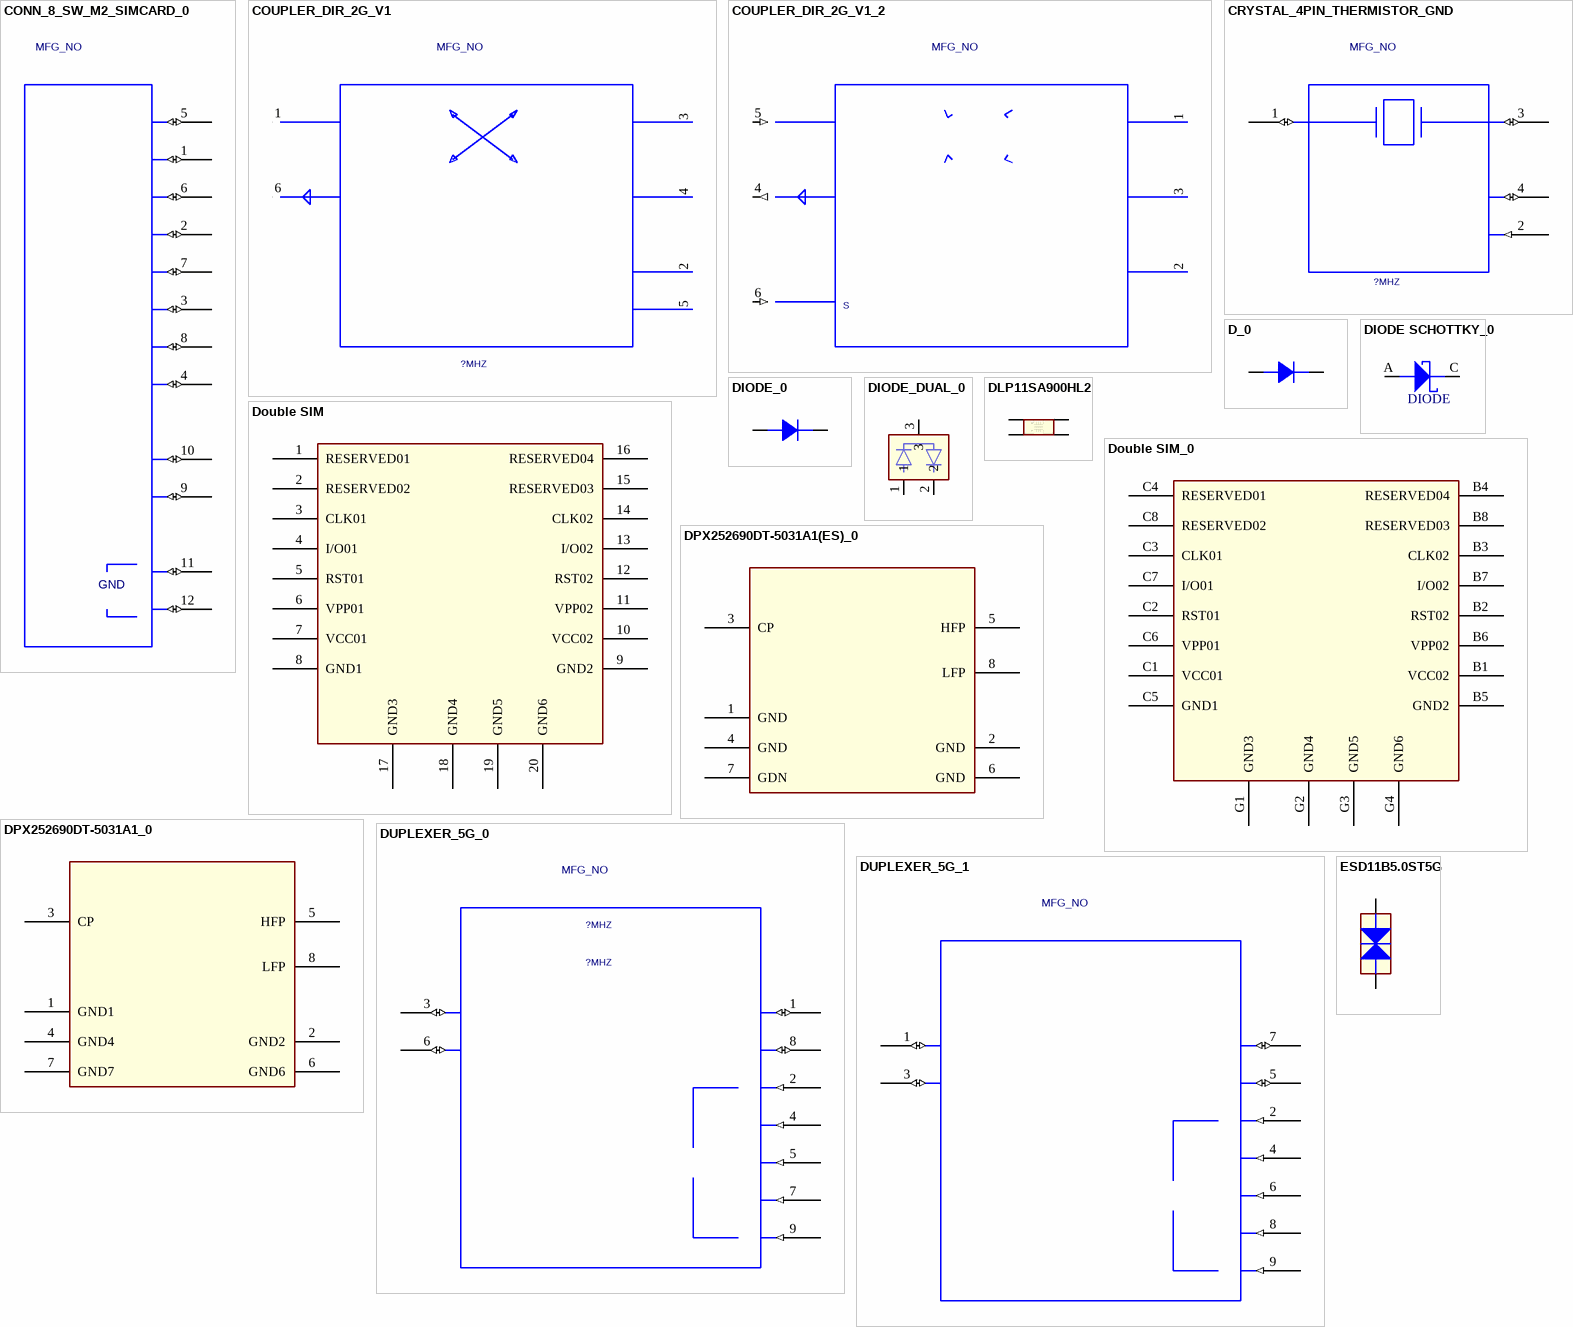
[diagram p20: symbols CONN_8_SW_M2_SIMCARD_0 to ESD11B5.0ST5G]

## CONN_8_SW_M2_SIMCARD_0
designator REF?, comment PART_ID: MFG_NO  (hidden comment: conn_8_sw_m2_simcard)
PART_NUMBER: MCN_NO; OriginalSymbolOrigin: (-275,875); CDS_LMAN_SYM_OUTLINE: -250,875,175,-1000; SYMNAME: conn_8_sw_m2_simcard; PACK_TYPE: ?
pins: 1 C1 (io), 2 C2 (io), 3 C3 (io), 4 C4 (io), 5 C5 (io), 6 C6 (io), 7 C7 (io), 8 C8 (io), 9 COM (io), 10 CD (io), 11 CASE1 (io), 12 CASE2 (io)
text: GND

## COUPLER_DIR_2G_V1
designator REF?, comment PART_ID: MFG_NO  BLOCKID: ?MHZ  (hidden comment: coupler_dir_2g_v1)
PART_NUMBER: MCN_NO; OriginalSymbolOrigin: (-700,400); CDS_LMAN_SYM_OUTLINE: -475,375,500,-500; SYMNAME: coupler_dir_2g_v1; PACK_TYPE: ?
pins: 1 IN (in), 2 GND1 (in), 3 OUT (out), 4 TERM (out), 5 GND2 (in), 6 CPLD (out)

## COUPLER_DIR_2G_V1_2
designator REF?, comment PART_ID: MFG_NO  (hidden comment: coupler_dir_2g_v1)
PART_NUMBER: MCN_NO; BLOCKID: ?MHZ; CDS_LMAN_SYM_OUTLINE: -475,375,500,-500; OriginalSymbolOrigin: (-700,400); PACK_TYPE: ?; SYMNAME: coupler_dir_2g_v1
pins: 1 Y1 (out), 2 GND1 (in), 3 Y0 (out), 4 Z (out), 5 VCC (in), 6 S (in)

## CRYSTAL_4PIN_THERMISTOR_GND
designator REF?, comment PART_ID: MFG_NO  FREQ: ?MHZ  (hidden comment: crystal_4pin_thermistor_gnd)
PART_NUMBER: MCN_NO; OriginalSymbolOrigin: (-350,150); CDS_LMAN_SYM_OUTLINE: -300,125,300,-500; SYMNAME: crystal_4pin_thermistor_gnd; PACK_TYPE: ?
pins: 1 H1 (io), 2 THRMSTR_GND (in), 3 H2 (io), 4 THRMSTR (io)

## D_0
designator D?
pins: A Anode, C Cathode

## DIODE SCHOTTKY_0
designator D?, comment DIODE
footprint SOD123
pins: A Anode, C Cathode

## DIODE_0
designator D?
pins: 1 A, 2 K

## DIODE_DUAL_0
designator D?
pins: 1, 2, 3

## DLP11SA900HL2
designator U?
footprint 0504
pins: 1 in1, 2 out1, 3 out2, 4 in2

## Double SIM
designator U?
pins: 1 RESERVED01, 2 RESERVED02, 3 CLK01, 4 I/O01, 5 RST01, 6 VPP01, 7 VCC01, 8 GND1, 9 GND2, 10 VCC02, 11 VPP02, 12 RST02, 13 I/O02, 14 CLK02, 15 RESERVED03, 16 RESERVED04, 17 GND3, 18 GND4, 19 GND5, 20 GND6

## Double SIM_0
designator U?
pins: B1 VCC02, B2 RST02, B3 CLK02, B4 RESERVED04, B5 GND2, B6 VPP02, B7 I/O02, B8 RESERVED03, C1 VCC01, C2 RST01, C3 CLK01, C4 RESERVED01, C5 GND1, C6 VPP01, C7 I/O01, C8 RESERVED02, G1 GND3, G2 GND4, G3 GND5, G4 GND6

## DPX252690DT-5031A1(ES)_0
designator U?
pins: 1 GND, 2 GND, 3 CP, 4 GND, 5 HFP, 6 GND, 7 GDN, 8 LFP

## DPX252690DT-5031A1_0
designator U?
pins: 1 GND1, 2 GND2, 3 CP, 4 GND4, 5 HFP, 6 GND6, 7 GND7, 8 LFP

## DUPLEXER_5G_0
designator REF?, comment PART_ID: MFG_NO  FREQB: ?MHZ  (hidden comment: DUPLEXER_5G_1OPT)
PART_NUMBER: MCN_NO; OriginalSymbolOrigin: (-550,600); CDS_LMAN_SYM_OUTLINE: -500,600,500,-600; SYMNAME: DUPLEXER_5G_1OPT; PACK_TYPE: ?; FREQA: ?MHZ
pins: 1 RX (io), 2 GND1 (in), 3 TX (io), 4 GND2 (in), 5 GND3 (in), 6 ANT (io), 7 GND4 (in), 8 GND (io), 9 GND5 (in)

## DUPLEXER_5G_1
designator REF?, comment PART_ID: MFG_NO  (hidden comment: DUPLEXER_5G_1OPT)
PART_NUMBER: MCN_NO; OriginalSymbolOrigin: (-550,600); FREQB: ?MHZ; CDS_LMAN_SYM_OUTLINE: -500,600,500,-600; SYMNAME: DUPLEXER_5G_1OPT; PACK_TYPE: ?; FREQA: ?MHZ
pins: 1 LB_IN (io), 2 GND1 (in), 3 MB_IN (io), 4 GND2 (in), 5 MB_OUT (io), 6 GND3 (in), 7 LB_OUT (io), 8 GND4 (in), 9 GND5 (in)

## ESD11B5.0ST5G
designator D?  (value not drawn)
footprint ESD11B5.0ST5G
pins: 1, 2

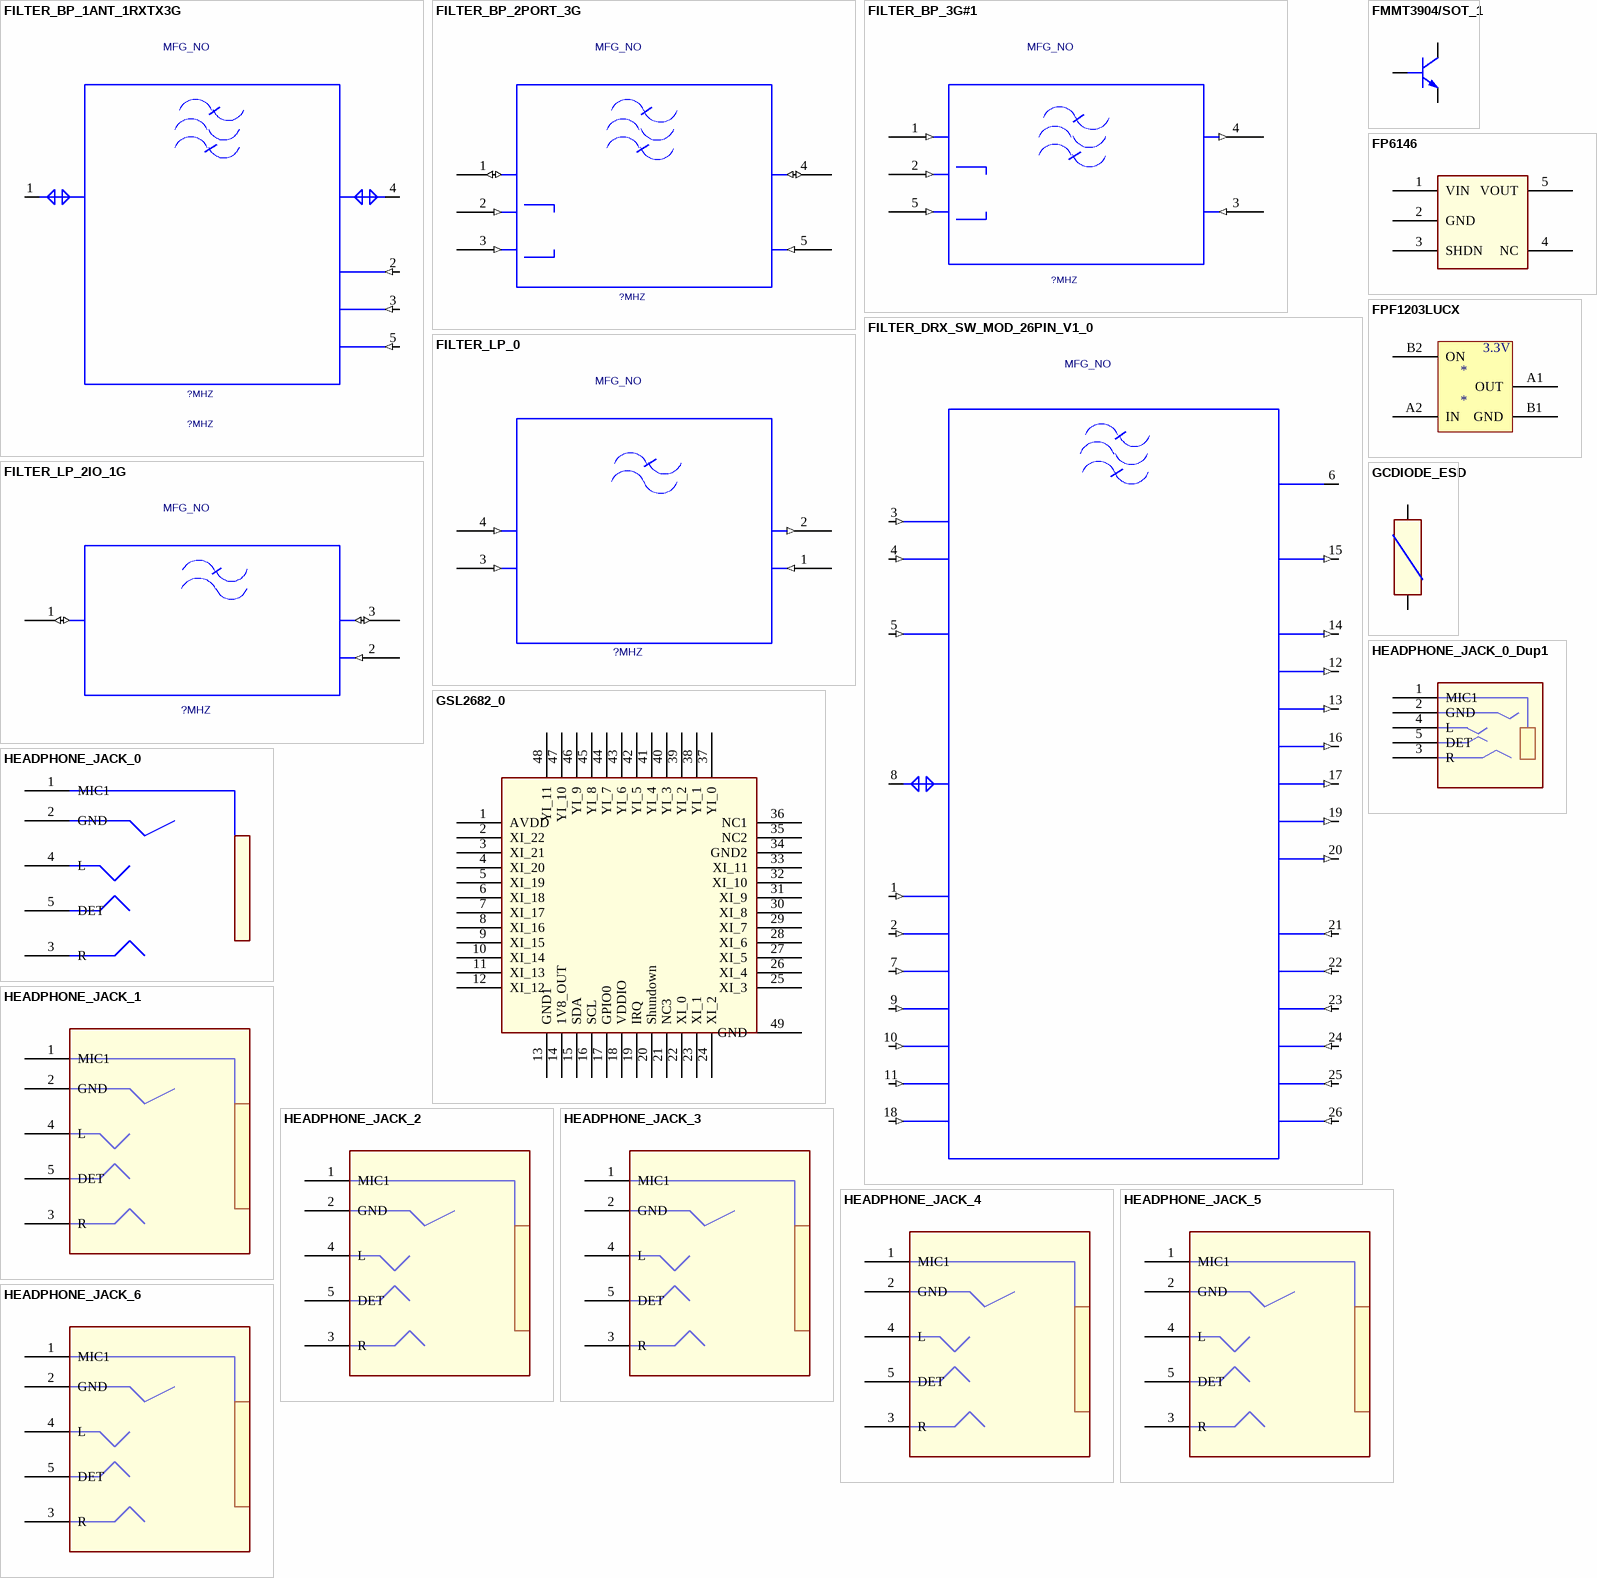
[diagram p21: symbols FILTER_BP_1ANT_1RXTX3G to HEADPHONE_JACK_6]

## FILTER_BP_1ANT_1RXTX3G
designator REF?  PART_ID: MFG_NO  FREQB: ?MHZ  (hidden comment: FILTER_BP_1ANT_1RXTX3G)
PART_NUMBER: MCN_NO; OriginalSymbolOrigin: (-575,525); CDS_LMAN_SYM_OUTLINE: -425,500,425,-500; SYMNAME: FILTER_BP_1ANT_1RXTX3G; PACK_TYPE: ?; FREQA: ?MHZ
pins: 1 RX_TX (io), 2 GND1 (in), 3 GND2 (in), 4 ANT (io), 5 GND3 (in)

## FILTER_BP_2PORT_3G
designator REF?, comment ?MHZ  PART_ID: MFG_NO
PART_NUMBER: MCN_NO; CDS_LMAN_SYM_OUTLINE: -425,300,425,-375; SYMNAME: filter_bp_2port_3g; OriginalSymbolOrigin: (-475,300); PACK_TYPE: ?
pins: 1 UNBAL1 (io), 2 GND1 (in), 3 GND2 (in), 4 UNBAL2 (io), 5 GND3 (in)

## FILTER_BP_3G#1
designator REF?, comment ?MHZ  PART_ID: MFG_NO
PART_NUMBER: MCN_NO; OriginalSymbolOrigin: (-475,325); SYMNAME: filter_bp_3g; CDS_LMAN_SYM_OUTLINE: -425,300,425,-300; PACK_TYPE: ?
pins: 1 IN (in), 2 GND1 (in), 3 GND3 (in), 4 OUT (out), 5 GND2 (in)

## FILTER_DRX_SW_MOD_26PIN_V1_0
designator REF?, comment PART_ID: MFG_NO  (hidden comment: filter_drx_sw_mod_26pin_v1)
PART_NUMBER: MCN_NO; OriginalSymbolOrigin: (-700,1375); CDS_LMAN_SYM_OUTLINE: -550,1375,550,-1125; SYMNAME: filter_drx_sw_mod_26pin_v1; PACK_TYPE: ?
pins: 1 GND1 (in), 2 GND2 (in), 3 SCLK (in), 4 SDATA (in), 5 VIO (in), 6 VDD (power), 7 GND3 (in), 8 ANT (io), 9 GND4 (in), 10 GND5 (in), 11 GND6 (in), 12 RX_B2 (out), 13 RX_B3 (out), 14 RX_B1_B4 (out), 15 AUX (out), 16 RX_B7 (out), 17 RX_B20 (out), 18 GND7 (in), 19 RX_B8 (out), 20 RX_B5 (out), 21 GND8 (in), 22 GND9 (in), 23 GND10 (in), 24 GND11 (in), 25 GND12 (in), 26 GND13 (in)

## FILTER_LP_0
designator REF?, comment PART_ID: MFG_NO  FREQ: ?MHZ  (hidden comment: filter_lp_2g)
PART_NUMBER: MCN_NO; OriginalSymbolOrigin: (-475,400); CDS_LMAN_SYM_OUTLINE: -425,375,425,-375; SYMNAME: filter_lp_2g; PACK_TYPE: ?
pins: 1 GND2 (in), 2 OUT (out), 3 GND1 (in), 4 IN (in)

## FILTER_LP_2IO_1G
designator REF?  PART_ID: MFG_NO  FREQ: ?MHZ  (hidden comment: FILTER_LP_2IO_1G)
PART_NUMBER: MCN_NO; OriginalSymbolOrigin: (-475,250); CDS_LMAN_SYM_OUTLINE: -425,250,425,-250; SYMNAME: FILTER_LP_2IO_1G; PACK_TYPE: ?
pins: 1 IO1 (io), 2 GND (in), 3 IO2 (io)

## FMMT3904/SOT_1
designator Q?
pins: 1 B, 2 E, 3 C

## FP6146
designator U?
footprint SOT-23-5
pins: 1 VIN, 2 GND, 3 SHDN, 4 NC, 5 VOUT

## FPF1203LUCX
designator *
pins: A1 OUT, A2 IN, B1 GND, B2 ON
text: 3.3V

## GCDIODE_ESD
designator T?
Part Number: SDV1005E5R5C101; OriginalSymbolOrigin: (-200,1100)
pins: 1, 2

## GSL2682_0
designator U?
pins: 1 AVDD, 2 XI_22, 3 XI_21, 4 XI_20, 5 XI_19, 6 XI_18, 7 XI_17, 8 XI_16, 9 XI_15, 10 XI_14, 11 XI_13, 12 XI_12, 13 GND1, 14 1V8_OUT, 15 SDA, 16 SCL, 17 GPIO0, 18 VDDIO, 19 IRQ, 20 Shundown, 21 NC3, 22 XI_0, 23 XI_1, 24 XI_2, 25 XI_3, 26 XI_4, 27 XI_5, 28 XI_6, 29 XI_7, 30 XI_8, 31 XI_9, 32 XI_10, 33 XI_11, 34 GND2, 35 NC2, 36 NC1, 37 YI_0, 38 YI_1, 39 YI_2, 40 YI_3, 41 YI_4, 42 YI_5, 43 YI_6, 44 YI_7, 45 YI_8, 46 YI_9, 47 YI_10, 48 YI_11, 49 GND

## HEADPHONE_JACK_0
designator J?
footprint HEADPHONE_JACK_FS030-002
pins: 1 MIC1, 2 GND, 3 R, 4 L, 5 DET

## HEADPHONE_JACK_0_Dup1
designator J?
footprint HEADPHONE_JACK_FS030-002
pins: 1 MIC1, 2 GND, 3 R, 4 L, 5 DET

## HEADPHONE_JACK_1
designator J?
footprint HEADPHONE_JACK_FS030-002
pins: 1 MIC1, 2 GND, 3 R, 4 L, 5 DET

## HEADPHONE_JACK_2
designator J?
footprint HEADPHONE_JACK_FS030-002
pins: 1 MIC1, 2 GND, 3 R, 4 L, 5 DET

## HEADPHONE_JACK_3
designator J?
footprint HEADPHONE_JACK_FS030-002
pins: 1 MIC1, 2 GND, 3 R, 4 L, 5 DET

## HEADPHONE_JACK_4
designator J?
footprint HEADPHONE_JACK_FS030-002
pins: 1 MIC1, 2 GND, 3 R, 4 L, 5 DET

## HEADPHONE_JACK_5
designator J?
footprint HEADPHONE_JACK_FS030-002
pins: 1 MIC1, 2 GND, 3 R, 4 L, 5 DET

## HEADPHONE_JACK_6
designator J?
footprint HEADPHONE_JACK_FS030-002
pins: 1 MIC1, 2 GND, 3 R, 4 L, 5 DET

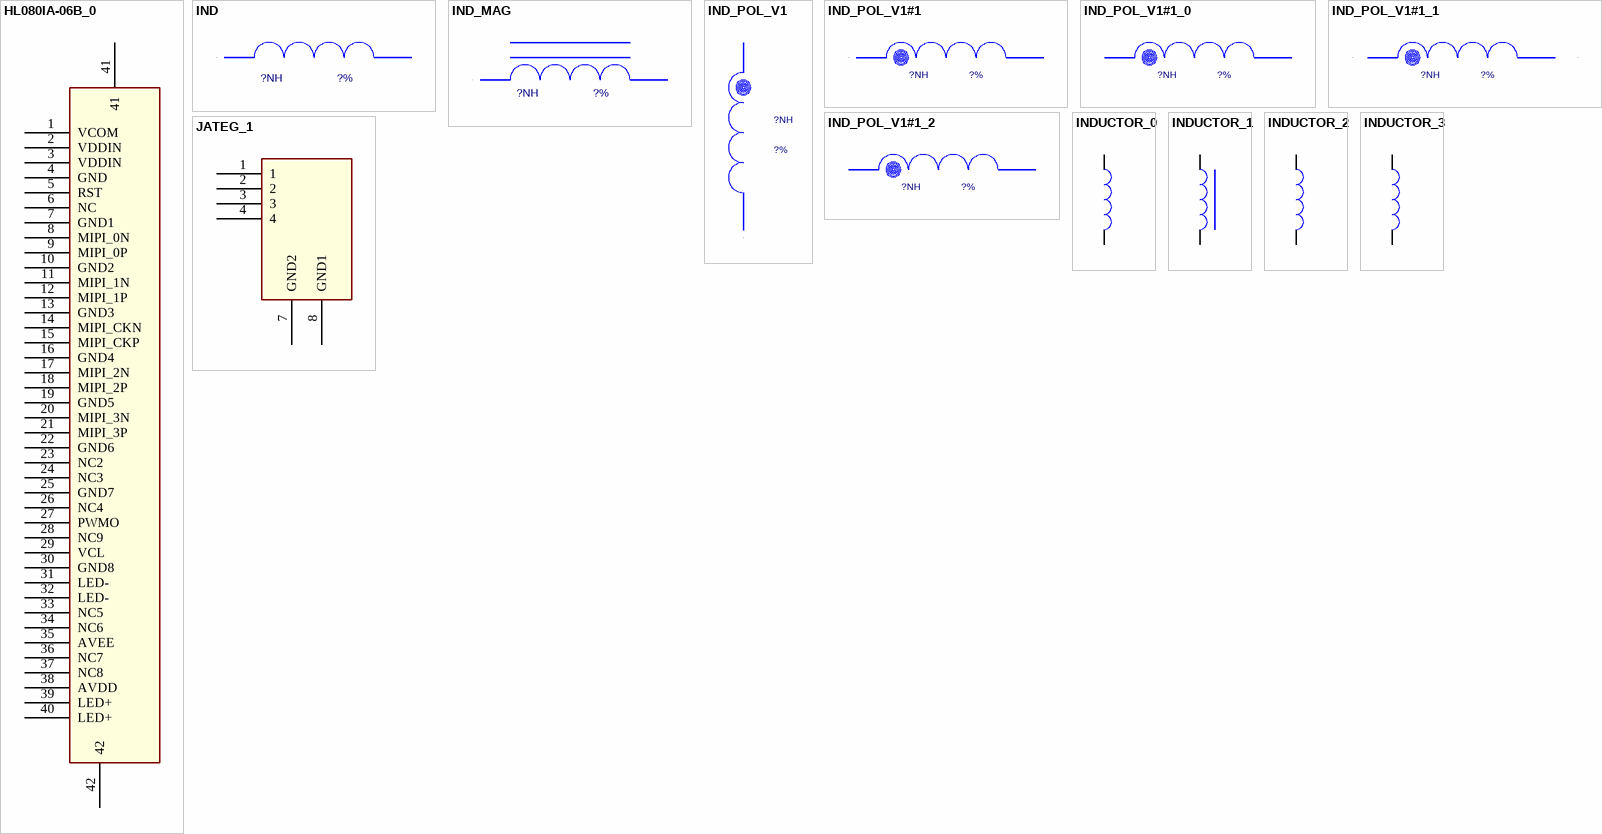
[diagram p22: symbols HL080IA-06B_0 to JATEG_1]

## HL080IA-06B_0
designator J?
footprint ATOM_P50_40P
pins: 1 VCOM, 2 VDDIN (power), 3 VDDIN (power), 4 GND, 5 RST, 6 NC, 7 GND1, 8 MIPI_0N, 9 MIPI_0P, 10 GND2, 11 MIPI_1N, 12 MIPI_1P, 13 GND3, 14 MIPI_CKN, 15 MIPI_CKP, 16 GND4, 17 MIPI_2N, 18 MIPI_2P, 19 GND5, 20 MIPI_3N, 21 MIPI_3P, 22 GND6, 23 NC2, 24 NC3, 25 GND7, 26 NC4, 27 PWMO, 28 NC9, 29 VCL, 30 GND8, 31 LED- (power), 32 LED- (power), 33 NC5, 34 NC6, 35 AVEE, 36 NC7, 37 NC8, 38 AVDD, 39 LED+ (power), 40 LED+ (power), 41, 42

## IND
designator REF?, comment ?NH  Tolerance: ?%
PART_NUMBER: MCN_NO; PART_ID: MFG_NO; OriginalSymbolOrigin: (-325,50); SYMNAME: IND; CDS_LMAN_SYM_OUTLINE: -200,50,200,0; PACK_TYPE: ?
pins: 1 POS (io), 2 NEG (io)

## IND_MAG
designator REF?, comment ?NH  Tolerance: ?%
PART_NUMBER: MCN_NO; PART_ID: MFG_NO; OriginalSymbolOrigin: (-325,150); SYMNAME: IND_MAG; CDS_LMAN_SYM_OUTLINE: -200,125,200,0; PACK_TYPE: ?
pins: 1 POS (io), 2 NEG (io)

## IND_POL_V1
designator L?, comment ?NH  Tolerance: ?%
PART_NUMBER: MCN_NO; PART_ID: MFG_NO; OriginalSymbolOrigin: (-50,300); CDS_LMAN_SYM_OUTLINE: -75,200,0,-200; PACK_TYPE: ?
pins: 1 POS (io), 2 NEG (io)

## IND_POL_V1#1
designator L?, comment ?NH  Tolerance: ?%
PART_NUMBER: MCN_NO; PART_ID: MFG_NO; OriginalSymbolOrigin: (-325,50); CDS_LMAN_SYM_OUTLINE: -200,75,200,0; PACK_TYPE: ?
pins: 1 POS (io), 2 NEG (io)

## IND_POL_V1#1_0
designator L?, comment ?NH  Tolerance: ?%
PART_NUMBER: MCN_NO; PART_ID: MFG_NO; OriginalSymbolOrigin: (-325,50); CDS_LMAN_SYM_OUTLINE: -200,75,200,0; PACK_TYPE: ?
pins: 1 POS (io), 2 NEG (io)

## IND_POL_V1#1_1
designator L?, comment ?NH  Tolerance: ?%
PART_NUMBER: MCN_NO; PART_ID: MFG_NO; OriginalSymbolOrigin: (-325,50); CDS_LMAN_SYM_OUTLINE: -200,75,200,0; PACK_TYPE: ?
pins: 1 POS (io), 2 NEG (io)

## IND_POL_V1#1_2
designator L?, comment ?NH  Tolerance: ?%
PART_NUMBER: MCN_NO; PART_ID: MFG_NO; OriginalSymbolOrigin: (-325,50); CDS_LMAN_SYM_OUTLINE: -200,75,200,0; PACK_TYPE: ?
pins: 1 POS (io), 2 NEG (io)

## INDUCTOR_0
designator L?
pins: 1, 2

## INDUCTOR_1
designator L?
pins: 1, 2

## INDUCTOR_2
designator L?
pins: 1, 2

## INDUCTOR_3
designator L?
pins: 1, 2

## JATEG_1
designator U?
pins: 1, 2, 3, 4, 7 GND2, 8 GND1